# Altium schematic symbol library Vyrodov_.SchLib: 135 symbols
Pins are listed as number, name and electrical type; pins without a type are passive.

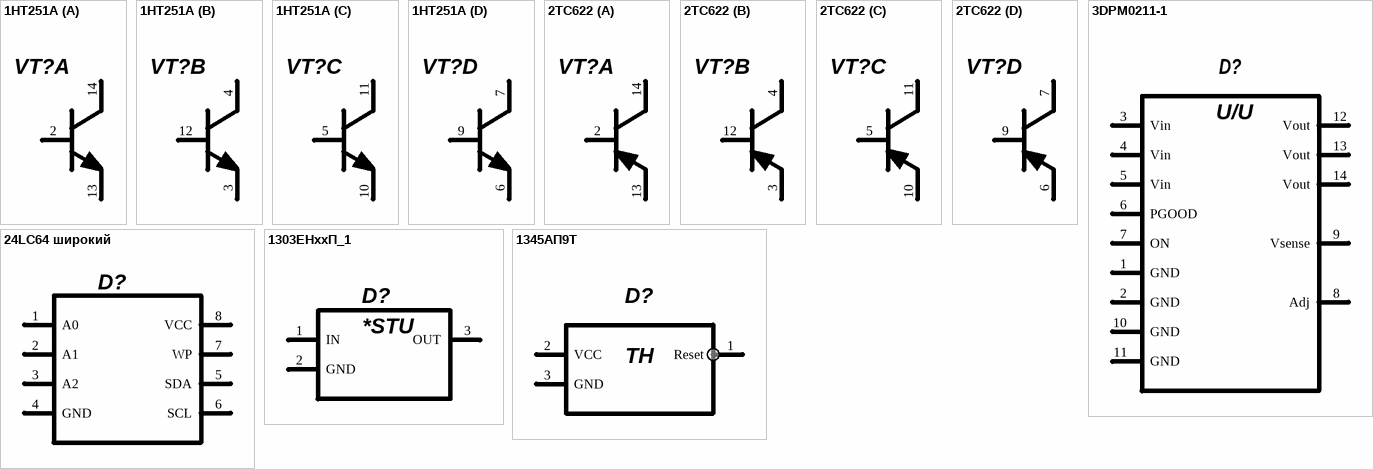
[diagram p0: symbols 1НТ251A to 1345АП9Т]

## 1НТ251A
designator VT?  (value not drawn)
Value: 1НТ251А
footprint 401.14-6 (Footprint not found)
part A pins: 2 B, 13 E, 14 C
part B pins: 3 E, 4 C, 12 B
part C pins: 5 B, 10 E, 11 C
part D pins: 6 У, 7 C, 9 B

## 2ТС622
designator VT?  (value not drawn)
Value: 2ТС622А1
footprint 401.14-6 (Footprint not found)
part A pins: 2 B, 13 E, 14 C
part B pins: 3 E, 4 C, 12 B
part C pins: 5 B, 10 E, 11 C
part D pins: 6 У, 7 C, 9 B

## 3DPM0211-1
designator D?  (value not drawn)
Value: 3DPM0211-1
pins: 1 GND, 2 GND, 3 Vin, 4 Vin, 5 Vin, 6 PGOOD, 7 ON, 8 Adj, 9 Vsense, 10 GND, 11 GND, 12 Vout, 13 Vout, 14 Vout
text: U/U

## 24LC64 широкий
designator D?, comment 24LC64-I/SN  (value not drawn)
footprint SOIC-8 (Footprint not found)
pins: 1 A0, 2 A1, 3 A2, 4 GND (power), 5 SDA, 6 SCL, 7 WP, 8 VCC (power)

## 1303ЕНххП_1
designator D?, comment 1303ЕН1.8П  (value not drawn)
Value: 1303ЕН1.8П
footprint KT-28A-2.05 (Footprint not found)
pins: 1 IN, 2 GND, 3 OUT
text: *STU

## 1345АП9Т
designator D?, comment 1345АП9Т АЯЕР.431310.843ТУ  (value not drawn)
Value: 1345АП9Т АЯЕР.431310.843ТУ
footprint 4601.3-1 (Footprint not found)
pins: 1 Reset, 2 VCC, 3 GND
text: TH

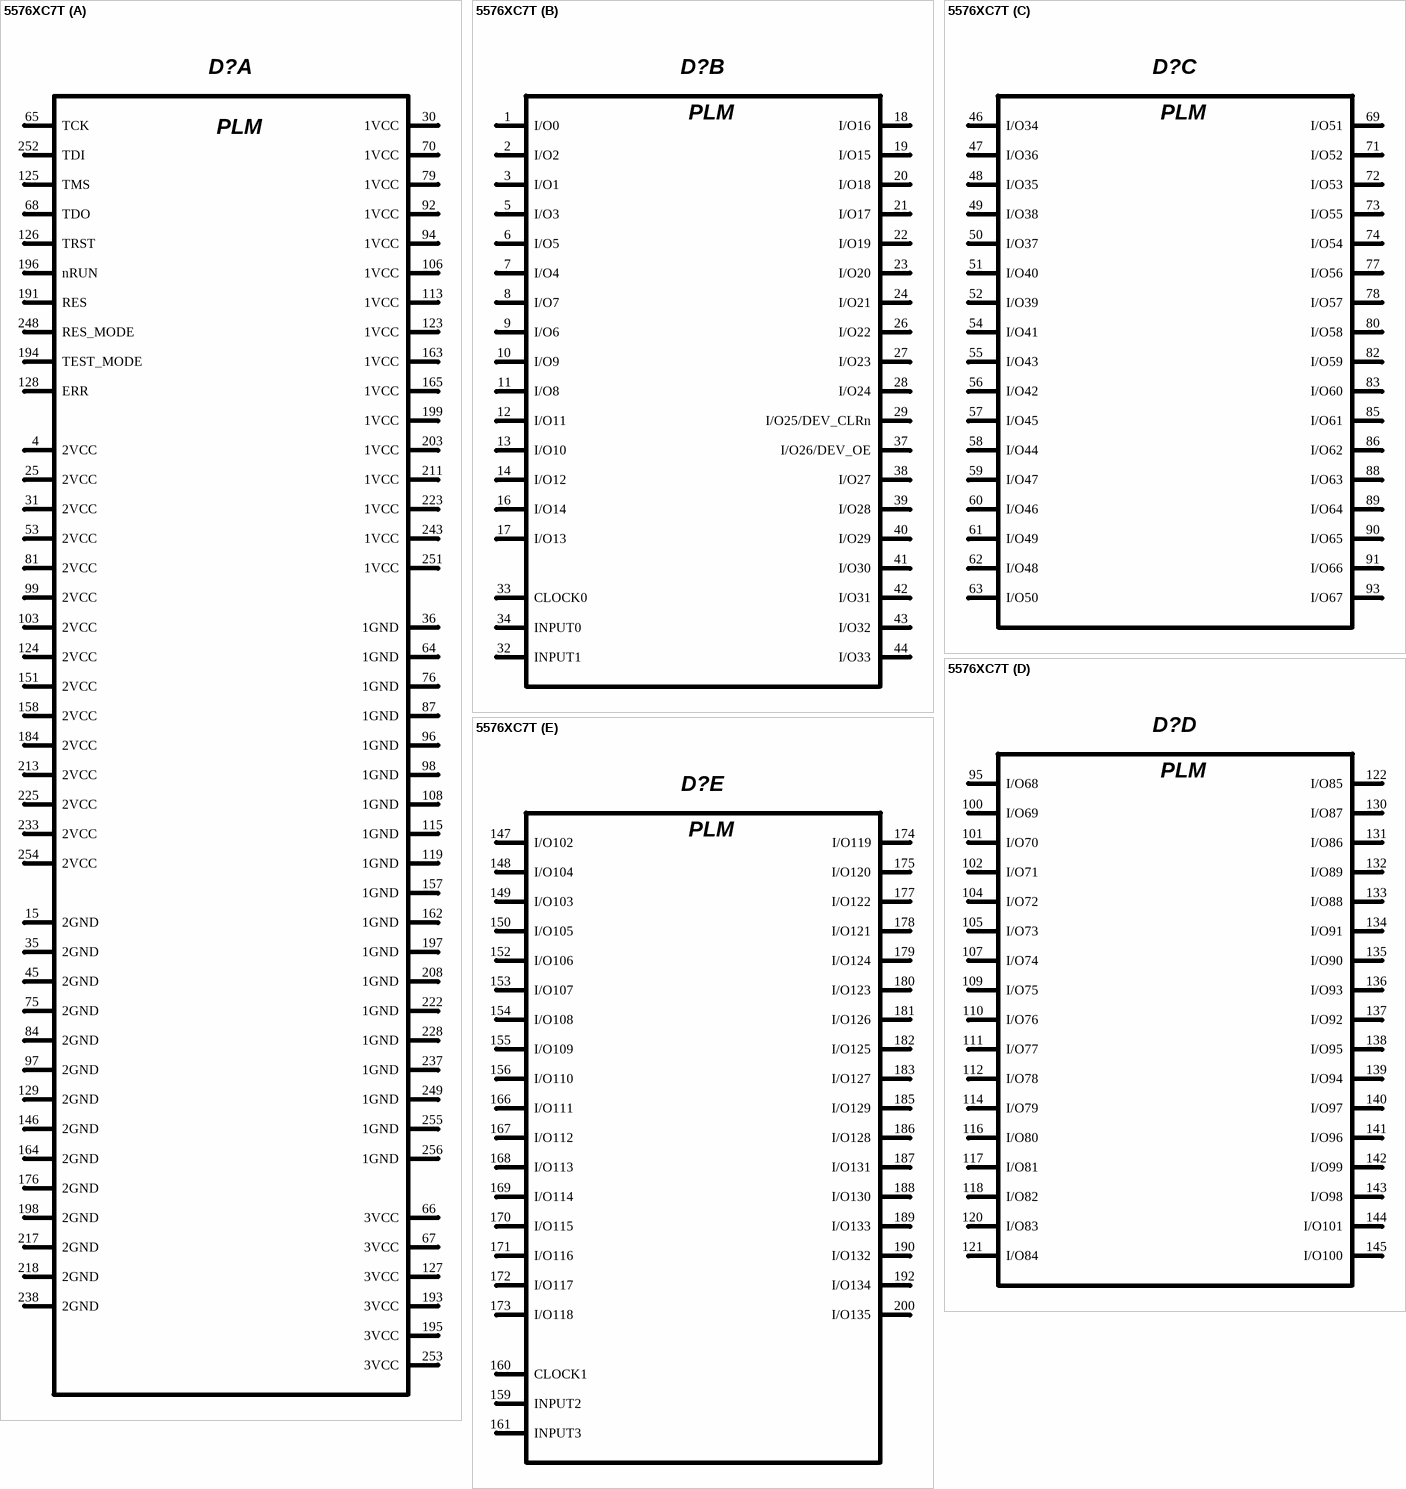
[diagram p1: symbol 5576ХС7Т]

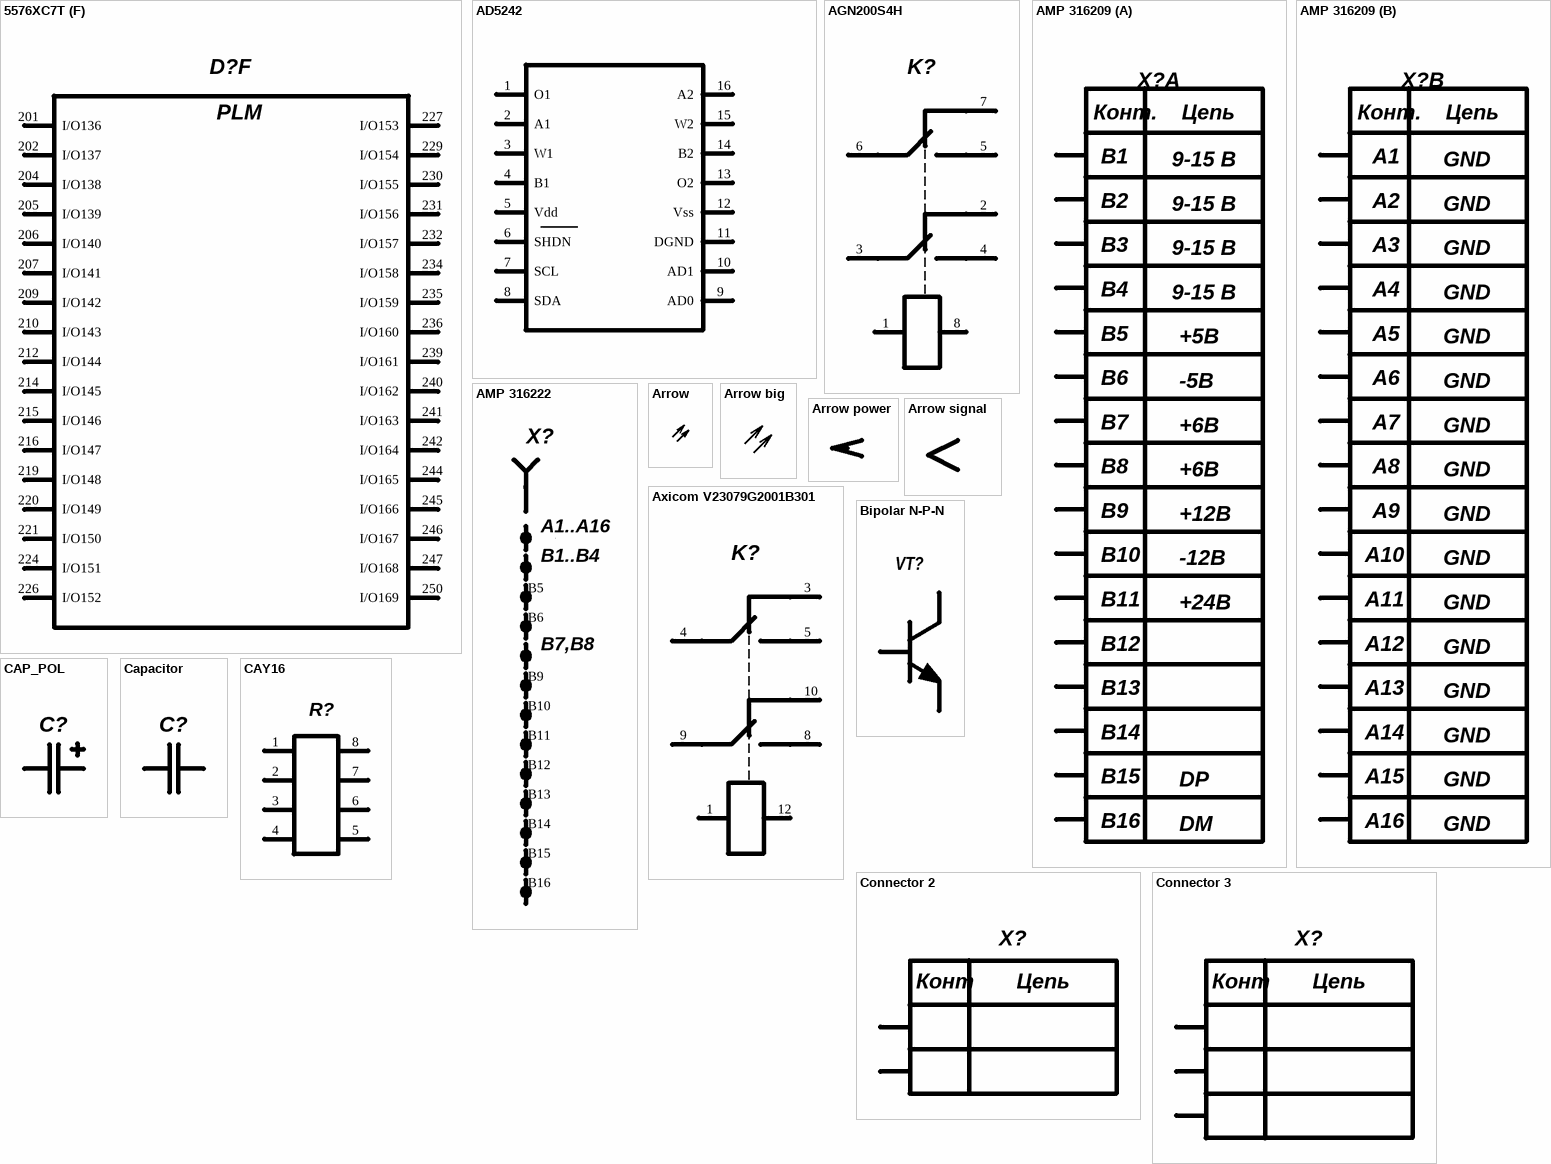
[diagram p2: symbols 5576ХС7Т to Connector 3]

## 5576ХС7Т
designator D?, comment 5576ХС7Т АЕНВ.431260.059ТУ  (value not drawn)
Value: 5576ХС7Т АЕНВ.431260.059ТУ
footprint 4244.256-3 (Footprint not found)
part A pins: 4 2VCC, 15 2GND, 25 2VCC, 30 1VCC, 31 2VCC, 35 2GND, 36 1GND, 45 2GND, 53 2VCC, 64 1GND, 65 TCK, 66 3VCC, 67 3VCC, 68 TDO, 70 1VCC, 75 2GND, 76 1GND, 79 1VCC, 81 2VCC, 84 2GND, 87 1GND, 92 1VCC, 94 1VCC, 96 1GND, 97 2GND, 98 1GND, 99 2VCC, 103 2VCC, 106 1VCC, 108 1GND, 113 1VCC, 115 1GND, 119 1GND, 123 1VCC, 124 2VCC, 125 TMS, 126 TRST, 127 3VCC, 128 ERR, 129 2GND, 146 2GND, 151 2VCC, 157 1GND, 158 2VCC, 162 1GND, 163 1VCC, 164 2GND, 165 1VCC, 176 2GND, 184 2VCC, 191 RES, 193 3VCC, 194 TEST_MODE, 195 3VCC, 196 nRUN, 197 1GND, 198 2GND, 199 1VCC, 203 1VCC, 208 1GND, 211 1VCC, 213 2VCC, 217 2GND, 218 2GND, 222 1GND, 223 1VCC, 225 2VCC, 228 1GND, 233 2VCC, 237 1GND, 238 2GND, 243 1VCC, 248 RES_MODE, 249 1GND, 251 1VCC, 252 TDI, 253 3VCC, 254 2VCC, 255 1GND, 256 1GND
part B pins: 1 I/O0, 2 I/O2, 3 I/O1, 5 I/O3, 6 I/O5, 7 I/O4, 8 I/O7, 9 I/O6, 10 I/O9, 11 I/O8, 12 I/O11, 13 I/O10, 14 I/O12, 16 I/O14, 17 I/O13, 18 I/O16, 19 I/O15, 20 I/O18, 21 I/O17, 22 I/O19, 23 I/O20, 24 I/O21, 26 I/O22, 27 I/O23, 28 I/O24, 29 I/O25/DEV_CLRn, 32 INPUT1, 33 CLOCK0, 34 INPUT0, 37 I/O26/DEV_OE, 38 I/O27, 39 I/O28, 40 I/O29, 41 I/O30, 42 I/O31, 43 I/O32, 44 I/O33
part C pins: 46 I/O34, 47 I/O36, 48 I/O35, 49 I/O38, 50 I/O37, 51 I/O40, 52 I/O39, 54 I/O41, 55 I/O43, 56 I/O42, 57 I/O45, 58 I/O44, 59 I/O47, 60 I/O46, 61 I/O49, 62 I/O48, 63 I/O50, 69 I/O51, 71 I/O52, 72 I/O53, 73 I/O55, 74 I/O54, 77 I/O56, 78 I/O57, 80 I/O58, 82 I/O59, 83 I/O60, 85 I/O61, 86 I/O62, 88 I/O63, 89 I/O64, 90 I/O65, 91 I/O66, 93 I/O67
part D pins: 95 I/O68, 100 I/O69, 101 I/O70, 102 I/O71, 104 I/O72, 105 I/O73, 107 I/O74, 109 I/O75, 110 I/O76, 111 I/O77, 112 I/O78, 114 I/O79, 116 I/O80, 117 I/O81, 118 I/O82, 120 I/O83, 121 I/O84, 122 I/O85, 130 I/O87, 131 I/O86, 132 I/O89, 133 I/O88, 134 I/O91, 135 I/O90, 136 I/O93, 137 I/O92, 138 I/O95, 139 I/O94, 140 I/O97, 141 I/O96, 142 I/O99, 143 I/O98, 144 I/O101, 145 I/O100
part E pins: 147 I/O102, 148 I/O104, 149 I/O103, 150 I/O105, 152 I/O106, 153 I/O107, 154 I/O108, 155 I/O109, 156 I/O110, 159 INPUT2, 160 CLOCK1, 161 INPUT3, 166 I/O111, 167 I/O112, 168 I/O113, 169 I/O114, 170 I/O115, 171 I/O116, 172 I/O117, 173 I/O118, 174 I/O119, 175 I/O120, 177 I/O122, 178 I/O121, 179 I/O124, 180 I/O123, 181 I/O126, 182 I/O125, 183 I/O127, 185 I/O129, 186 I/O128, 187 I/O131, 188 I/O130, 189 I/O133, 190 I/O132, 192 I/O134, 200 I/O135
part F pins: 201 I/O136, 202 I/O137, 204 I/O138, 205 I/O139, 206 I/O140, 207 I/O141, 209 I/O142, 210 I/O143, 212 I/O144, 214 I/O145, 215 I/O146, 216 I/O147, 219 I/O148, 220 I/O149, 221 I/O150, 224 I/O151, 226 I/O152, 227 I/O153, 229 I/O154, 230 I/O155, 231 I/O156, 232 I/O157, 234 I/O158, 235 I/O159, 236 I/O160, 239 I/O161, 240 I/O162, 241 I/O163, 242 I/O164, 244 I/O165, 245 I/O166, 246 I/O167, 247 I/O168, 250 I/O169
part A text: PLM
part B text: PLM
part C text: PLM
part D text: PLM
part E text: PLM
part F text: PLM

## AD5242
designator D?, comment DPOT  (value not drawn)
Type: *; Value: *
pins: 1 O1, 2 A1, 3 W1, 4 B1, 5 Vdd, 6 SHDN, 7 SCL, 8 SDA, 9 AD0, 10 AD1, 11 DGND, 12 Vss, 13 O2, 14 B2, 15 W2, 16 A2

## AGN200S4H
designator K?  (value not drawn)
Value: AGN200S4
pins: 1, 2, 3, 4, 5, 6, 7, 8

## AMP 316209
designator X?  (value not drawn)
Value: AMP 316209
part A pins: 17 B1, 18 B2, 19 B3, 20 B4, 21 B5, 22 B6, 23 B7, 24 B8, 25 B9, 26 B10, 27 B11, 28 B12, 29 B13, 30 B14, 31 B15, 32 B16
part B pins: 1 A1, 2 A2, 3 A3, 4 A4, 5 A5, 6 A6, 7 A7, 8 A8, 9 A9, 10 A10, 11 A11, 12 A12, 13 A13, 14 A14, 15 A15, 16 A16
part A text: Конт.; Цепь; 9-15 B; +5В; -5В; +6В; +12В; -12В; +24В; DP; DM
part B text: Конт.; Цепь; GND

## AMP 316222
designator X?  (value not drawn)
Value: AMP 316222
pins: A1, A2, A3, A4, A5, A6, A7, A8, A9, A10, A11, A12, A13, A14, A15, A16, B1, B2, B3, B4, B5, B6, B7, B8, B9, B10, B11, B12, B13, B14, B15, B16
text: A1..A16; B1..B4; B7,B8

## Arrow
designator *  (value not drawn)  (graphical)

## Arrow big
designator *  (value not drawn)  (graphical)

## Arrow power
designator *  (value not drawn)  (graphical)

## Arrow signal
designator *  (value not drawn)  (graphical)

## Axicom V23079G2001B301
designator K?  (value not drawn)
pins: 1, 3, 4, 5, 8, 9, 10, 12

## Bipolar N-P-N
designator VT?  (value not drawn)
Value: BC817-16LT
pins: 1 E, 2 B, 3 C

## CAP_POL
designator C?
footprint TAJA
footprint TAJE
footprint KVE83
footprint KVE-D10
footprint TAJB
footprint TAJC
footprint TAJD (Molded Capacitor, 2-Leads, Body 7,3x4,3mm)
pins: 1, 2

## Capacitor
designator C?  (value not drawn)
Value: *
pins: 1, 2

## CAY16
designator R?, comment CAY16-103J4LF  (value not drawn)
Value: CAY16-103J4LF
footprint cay-16
pins: 1, 2, 3, 4, 5, 6, 7, 8

## Connector 2
designator X?  (value not drawn)
Value: Вилка WF-02; Производитель: *
footprint WF-02 (Вилка WF-02)
pins: 1, 2
text: Конт; Цепь

## Connector 3
designator X?  (value not drawn)
pins: 1, 2, 3
text: Конт; Цепь

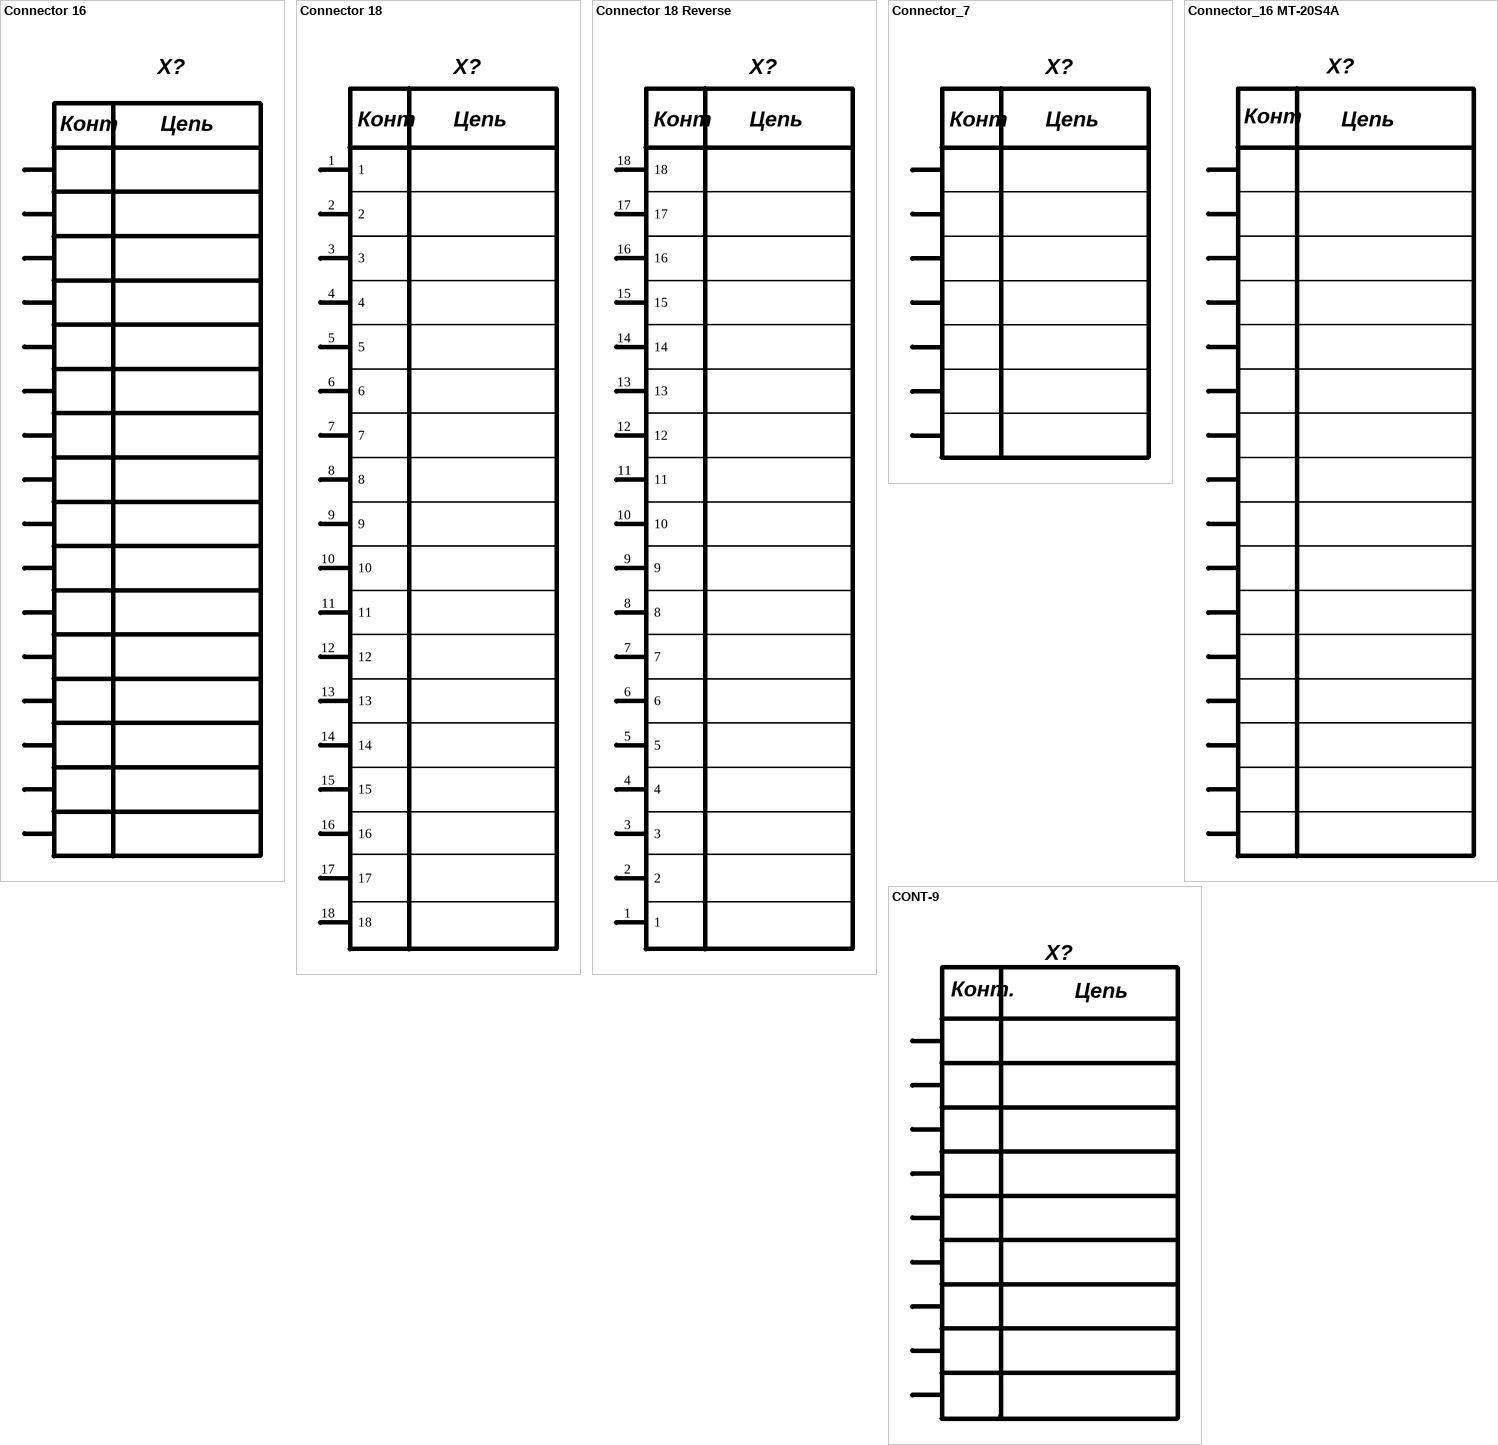
[diagram p3: symbols Connector 16 to CONT-9]

## Connector 16
designator X?, comment Molex 52207-1660 (16х1 мм)  (value not drawn)
Type: Molex 52207-1660 (16х1 мм)
footprint Model Name (Footprint not found)
pins: 1, 2, 3, 4, 5, 6, 7, 8, 9, 10, 11, 12, 13, 14, 15, 16
text: Конт; Цепь

## Connector 18
designator X?, comment Molex 52207-1660 (16х1 мм)  (value not drawn)
Type: Molex 52207-1660 (16х1 мм)
footprint Model Name (Footprint not found)
pins: 1, 2, 3, 4, 5, 6, 7, 8, 9, 10, 11, 12, 13, 14, 15, 16, 17, 18
text: Конт; Цепь

## Connector 18 Reverse
designator X?
Value: Molex 52207-1660 (16х1 мм)
footprint Model Name (Footprint not found)
pins: 1, 2, 3, 4, 5, 6, 7, 8, 9, 10, 11, 12, 13, 14, 15, 16, 17, 18
text: Конт; Цепь

## Connector_7
designator X?
Value: *
footprint Model Name (Footprint not found)
pins: 1, 2, 3, 4, 5, 6, 7
text: Конт; Цепь

## Connector_16 MT-20S4A
designator X?  (value not drawn)
Type: *; Value: *
pins: 1, 2, 3, 4, 5, 6, 7, 8, 9, 10, 11, 12, 13, 14, 15, 16
text: Конт; Цепь

## CONT-9
designator X?  (value not drawn)
Value: *
pins: 1, 2, 3, 4, 5, 6, 7, 8, 9
text: Конт.; Цепь

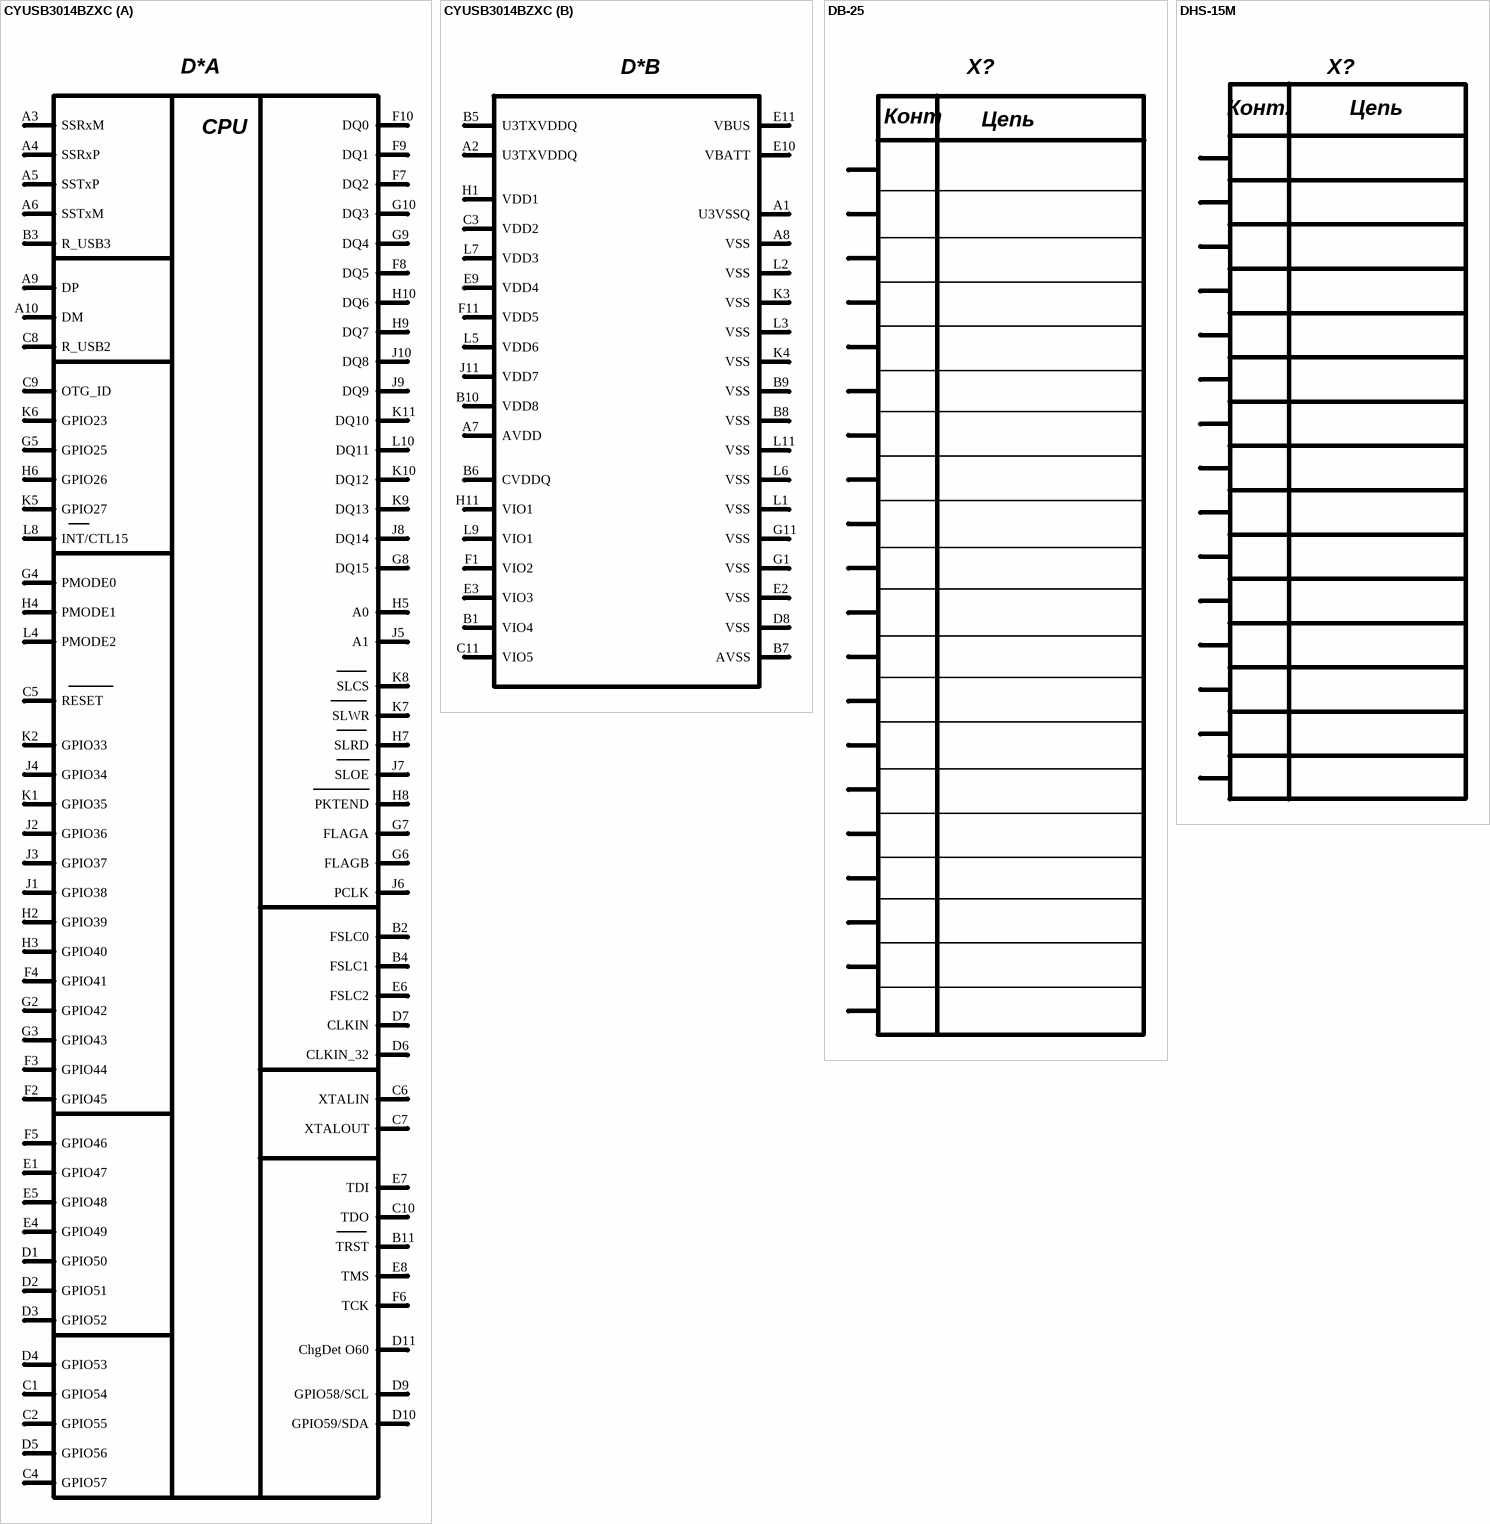
[diagram p4: symbols CYUSB3014BZXC to DHS-15M]

## CYUSB3014BZXC
designator D*  (value not drawn)
Value: CYUSB3014BZXC
footprint BGA121 (Footprint not found)
part A pins: A3 SSRxM, A4 SSRxP, A5 SSTxP, A6 SSTxM, A9 DP, A10 DM, B2 FSLC0, B3 R_USB3, B4 FSLC1, B11 TRST, C1 GPIO54, C2 GPIO55, C4 GPIO57, C5 RESET, C6 XTALIN, C7 XTALOUT, C8 R_USB2, C9 OTG_ID, C10 TDO, D1 GPIO50, D2 GPIO51, D3 GPIO52, D4 GPIO53, D5 GPIO56, D6 CLKIN_32, D7 CLKIN, D9 GPIO58/SCL, D10 GPIO59/SDA, D11 ChgDet O60, E1 GPIO47, E4 GPIO49, E5 GPIO48, E6 FSLC2, E7 TDI, E8 TMS, F2 GPIO45, F3 GPIO44, F4 GPIO41, F5 GPIO46, F6 TCK, F7 DQ2, F8 DQ5, F9 DQ1, F10 DQ0, G2 GPIO42, G3 GPIO43, G4 PMODE0, G5 GPIO25, G6 FLAGB, G7 FLAGA, G8 DQ15, G9 DQ4, G10 DQ3, H2 GPIO39, H3 GPIO40, H4 PMODE1, H5 A0, H6 GPIO26, H7 SLRD, H8 PKTEND, H9 DQ7, H10 DQ6, J1 GPIO38, J2 GPIO36, J3 GPIO37, J4 GPIO34, J5 A1, J6 PCLK, J7 SLOE, J8 DQ14, J9 DQ9, J10 DQ8, K1 GPIO35, K2 GPIO33, K5 GPIO27, K6 GPIO23, K7 SLWR, K8 SLCS, K9 DQ13, K10 DQ12, K11 DQ10, L4 PMODE2, L8 INT/CTL15, L10 DQ11
part B pins: A1 U3VSSQ, A2 U3TXVDDQ, A7 AVDD, A8 VSS, B1 VIO4, B5 U3TXVDDQ, B6 CVDDQ, B7 AVSS, B8 VSS, B9 VSS, B10 VDD8, C3 VDD2, C11 VIO5, D8 VSS, E2 VSS, E3 VIO3, E9 VDD4, E10 VBATT, E11 VBUS, F1 VIO2, F11 VDD5, G1 VSS, G11 VSS, H1 VDD1, H11 VIO1, J11 VDD7, K3 VSS, K4 VSS, L1 VSS, L2 VSS, L3 VSS, L5 VDD6, L6 VSS, L7 VDD3, L9 VIO1, L11 VSS
part A text: CPU

## DB-25
designator X?  (value not drawn)
Value: DB-25; Type: *
pins: 1, 2, 3, 4, 5, 6, 7, 8, 9, 10, 11, 12, 13, 14, 15, 16, 17, 19, 22, 24
text: Конт; Цепь

## DHS-15M
designator X?  Text1: Конт.  Text2: Цепь  (hidden comment: DHS-15M)
Value: DHS-15M
footprint PLD-2.0-16
footprint DHS-15M (Footprint not found)
pins: 1, 2, 3, 4, 5, 6, 7, 8, 9, 10, 11, 12, 13, 14, 15

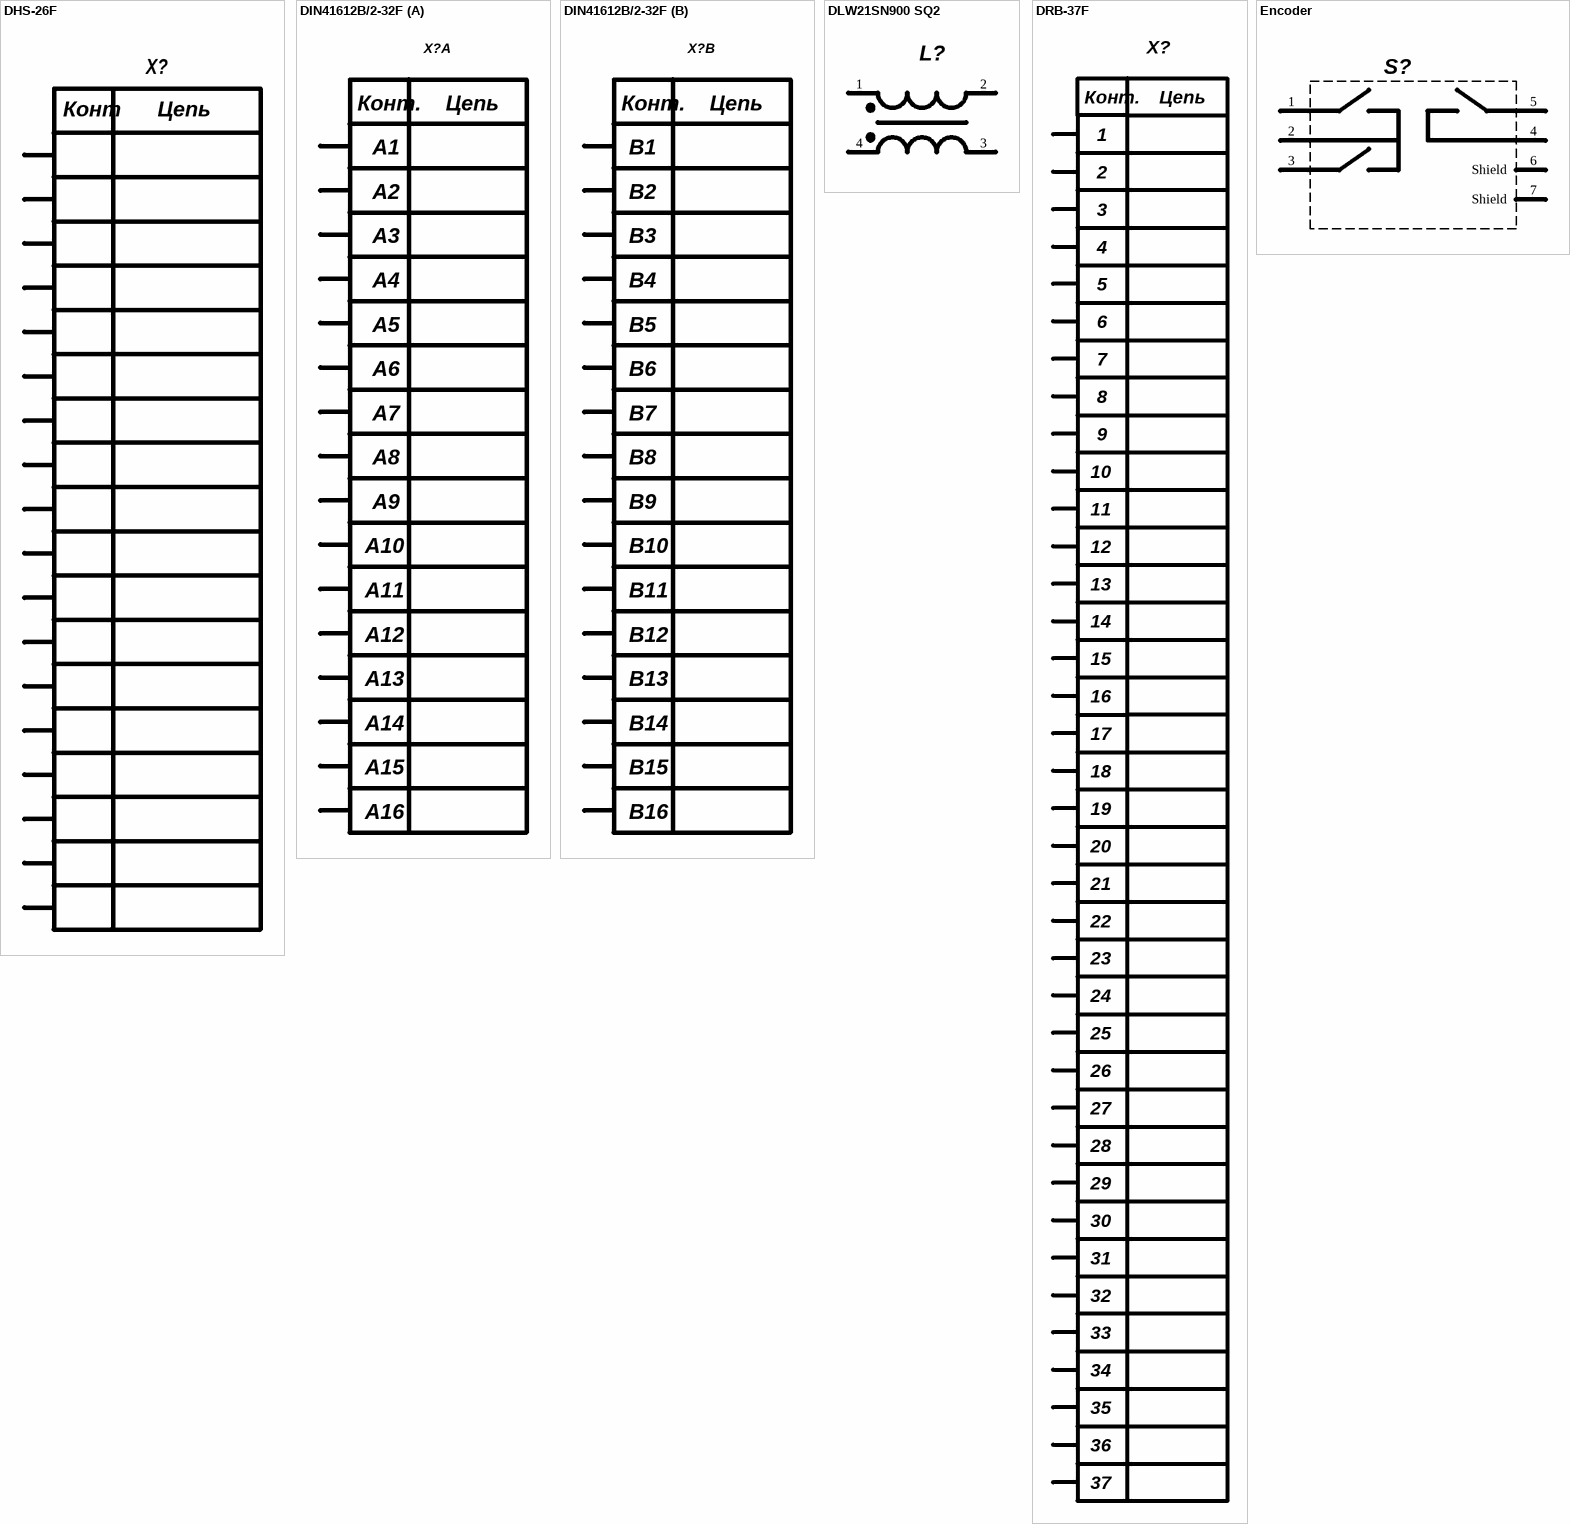
[diagram p5: symbols DHS-26F to Encoder]

## DHS-26F
designator X?  (value not drawn)
Value: DHS-26F
pins: 1, 2, 3, 4, 5, 6, 8, 9, 12, 13, 15, 16, 19, 20, 22, 23, 25, 26
text: Конт; Цепь

## DIN41612B/2-32F
designator X?  (value not drawn)
Value: DIN41612B/2-32F
footprint Model Name (Footprint not found)
part A pins: 1 A1, 2 A2, 3 A3, 4 A4, 5 A5, 6 A6, 7 A7, 8 A8, 9 A9, 10 A10, 11 A11, 12 A12, 13 A13, 14 A14, 15 A15, 16 A16
part B pins: 17 B1, 18 B2, 19 B3, 20 B4, 21 B5, 22 B6, 23 B7, 24 B8, 25 B9, 26 B10, 27 B11, 28 B12, 29 B13, 30 B14, 31 B15, 32 B16
part A text: Конт.; Цепь
part B text: Конт.; Цепь

## DLW21SN900 SQ2
designator L?, comment DLW21SN900SO2  (value not drawn)
pins: 1, 2, 3, 4

## DRB-37F
designator X?  (value not drawn)
Value: DRB-37F
pins: 1, 2, 3, 4, 5, 6, 7, 8, 9, 10, 11, 12, 13, 14, 15, 16, 17, 18, 19, 20, 21, 22, 23, 24, 25, 26, 27, 28, 29, 30, 31, 32, 33, 34, 35, 36, 37
text: Конт.; Цепь

## Encoder
designator S?  (value not drawn)
Type: *; Value: *
pins: 1 A, 2 COM, 3 B, 4 BTN2, 5 BTN1, 6 Shield, 7 Shield

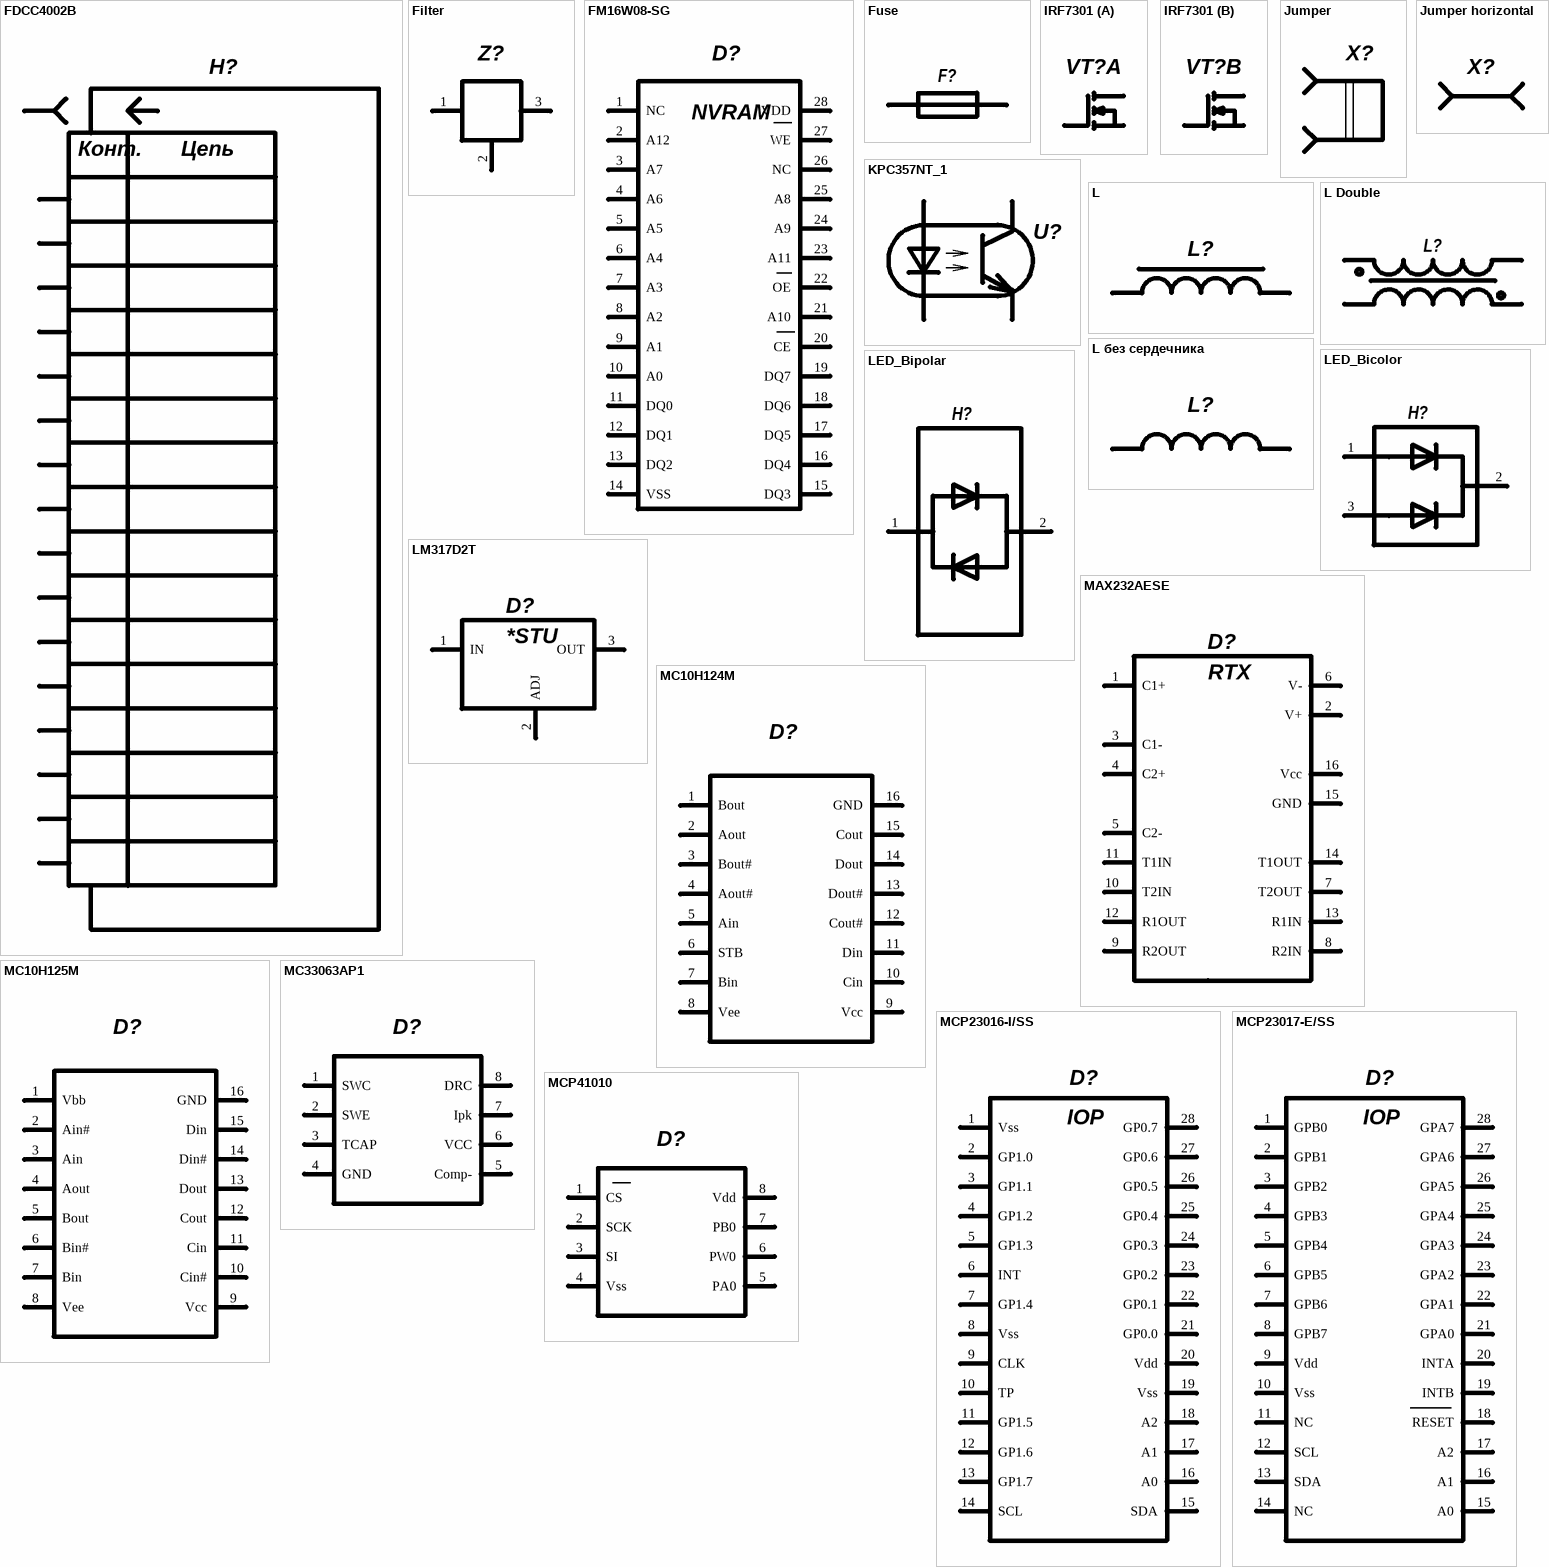
[diagram p6: symbols FDCC4002B to MCP41010]

## FDCC4002B
designator H?  (value not drawn)  (graphical)
Value: FDCC4002B; Производитель: Fordata electronic Co., LTD
pins: 1, 2, 3, 4, 5, 6, 7, 8, 9, 10, 11, 12, 13, 14, 15, 16
text: Конт.; Цепь

## Filter
designator Z?, comment NFM21  (value not drawn)
Value: NFM21
footprint NFM21C
footprint NFM18C
pins: 1, 2, 3

## FM16W08-SG
designator D?  (value not drawn)
Value: FM16W08-SG
footprint SOIC28 (Footprint not found)
pins: 1 NC, 2 A12, 3 A7, 4 A6, 5 A5, 6 A4, 7 A3, 8 A2, 9 A1, 10 A0, 11 DQ0, 12 DQ1, 13 DQ2, 14 VSS, 15 DQ3, 16 DQ4, 17 DQ5, 18 DQ6, 19 DQ7, 20 CE, 21 A10, 22 OE, 23 A11, 24 A9, 25 A8, 26 NC, 27 WE, 28 VDD
text: NVRAM

## Fuse
designator F?  (value not drawn)
Value: Держатель предохранителя 5х20
footprint FH (Footprint not found)
pins: 1, 2

## IRF7301
designator VT?  (value not drawn)
Value: IRF7301
footprint SO-8_N (Footprint not found)
3D model SO-8 (PCB3D Model)
part A pins: 1, 2, 7, 8
part B pins: 3, 4, 5, 6

## Jumper
designator X?  (value not drawn)

## Jumper horizontal
designator X?, comment Джампер MJ-O-4,5  (value not drawn)  (mechanical)
Value: Джампер MJ-O-4,5

## KPC357NT_1
designator U?, comment KPC357NT  (value not drawn)
footprint SOP254P1030-4M (SOP, 8-Leads, Body 9.5x6.4mm, Pitch 2.54mm, IPC Low Density)
pins: 1 A, 2 K, 3 E, 4 C

## L
designator L?, comment BLM18SG121TN1  (value not drawn)
Value: BLM18SG121TN1
footprint SDR0805
footprint CM45
footprint 1008CS
footprint SDR0603
pins: 1, 2

## L Double
designator L?  (value not drawn)
Value: *
footprint L Double (Footprint not found)
pins: 1, 2, 3, 4

## L без сердечника
designator L?, comment BLM18SG121TN1  (value not drawn)
Value: BLM18SG121TN1
footprint SDR0805
footprint CM45
footprint 1008CS
footprint SDR0603
footprint 0805
pins: 1, 2

## LED_Bicolor
designator H?  (value not drawn)
pins: 1, 2, 3

## LED_Bipolar
designator H?  (value not drawn)
pins: 1, 2

## LM317D2T
designator D?  (value not drawn)
Value: LM317D2T
footprint D2PAK (Footprint not found)
pins: 1 IN, 2 ADJ, 3 OUT
text: *STU

## MAX232AESE
designator D?  (value not drawn)
Value: MAX232AESE
footprint SO-16 (Footprint not found)
pins: 1 C1+, 2 V+, 3 C1-, 4 C2+, 5 C2-, 6 V-, 7 T2OUT, 8 R2IN, 9 R2OUT, 10 T2IN, 11 T1IN, 12 R1OUT, 13 R1IN, 14 T1OUT, 15 GND, 16 Vcc
text: RTX

## MC10H124M
designator D?  (value not drawn)
Value: MC10H124M
pins: 1 Bout, 2 Aout, 3 Bout#, 4 Aout#, 5 Ain, 6 STB, 7 Bin, 8 Vee, 9 Vcc, 10 Cin, 11 Din, 12 Cout#, 13 Dout#, 14 Dout, 15 Cout, 16 GND

## MC10H125M
designator D?  (value not drawn)
Value: MC10H125M
pins: 1 Vbb, 2 Ain#, 3 Ain, 4 Aout, 5 Bout, 6 Bin#, 7 Bin, 8 Vee, 9 Vcc, 10 Cin#, 11 Cin, 12 Cout, 13 Dout, 14 Din#, 15 Din, 16 GND

## MC33063AP1
designator D?  (value not drawn)
Value: MC33063AP1
pins: 1 SWC, 2 SWE, 3 TCAP, 4 GND, 5 Comp-, 6 VCC, 7 Ipk, 8 DRC

## MCP23016-I/SS
designator D?  (value not drawn)
Value: MCP23016-I/SS
footprint SSOP-28 (SSOP, Plastic; 28 Leads; Body Width 5.2 mm; Pitch 0.65 mm)
pins: 1 Vss, 2 GP1.0, 3 GP1.1, 4 GP1.2, 5 GP1.3, 6 INT, 7 GP1.4, 8 Vss, 9 CLK, 10 TP, 11 GP1.5, 12 GP1.6, 13 GP1.7, 14 SCL, 15 SDA, 16 A0, 17 A1, 18 A2, 19 Vss, 20 Vdd, 21 GP0.0, 22 GP0.1, 23 GP0.2, 24 GP0.3, 25 GP0.4, 26 GP0.5, 27 GP0.6, 28 GP0.7
text: IOP

## MCP23017-E/SS
designator D?  (value not drawn)
Value: MCP23017-E/SS
footprint SSOP-28 (SSOP, Plastic; 28 Leads; Body Width 5.2 mm; Pitch 0.65 mm)
pins: 1 GPB0, 2 GPB1, 3 GPB2, 4 GPB3, 5 GPB4, 6 GPB5, 7 GPB6, 8 GPB7, 9 Vdd, 10 Vss, 11 NC, 12 SCL, 13 SDA, 14 NC, 15 A0, 16 A1, 17 A2, 18 RESET, 19 INTB, 20 INTA, 21 GPA0, 22 GPA1, 23 GPA2, 24 GPA3, 25 GPA4, 26 GPA5, 27 GPA6, 28 GPA7
text: IOP

## MCP41010
designator D?, comment MCP41010-I/SN (10 кОм)  (value not drawn)
Value: MCP41010-I/SN (10 кОм)
footprint SOIC-8
pins: 1 CS, 2 SCK, 3 SI, 4 Vss, 5 PA0, 6 PW0, 7 PB0, 8 Vdd

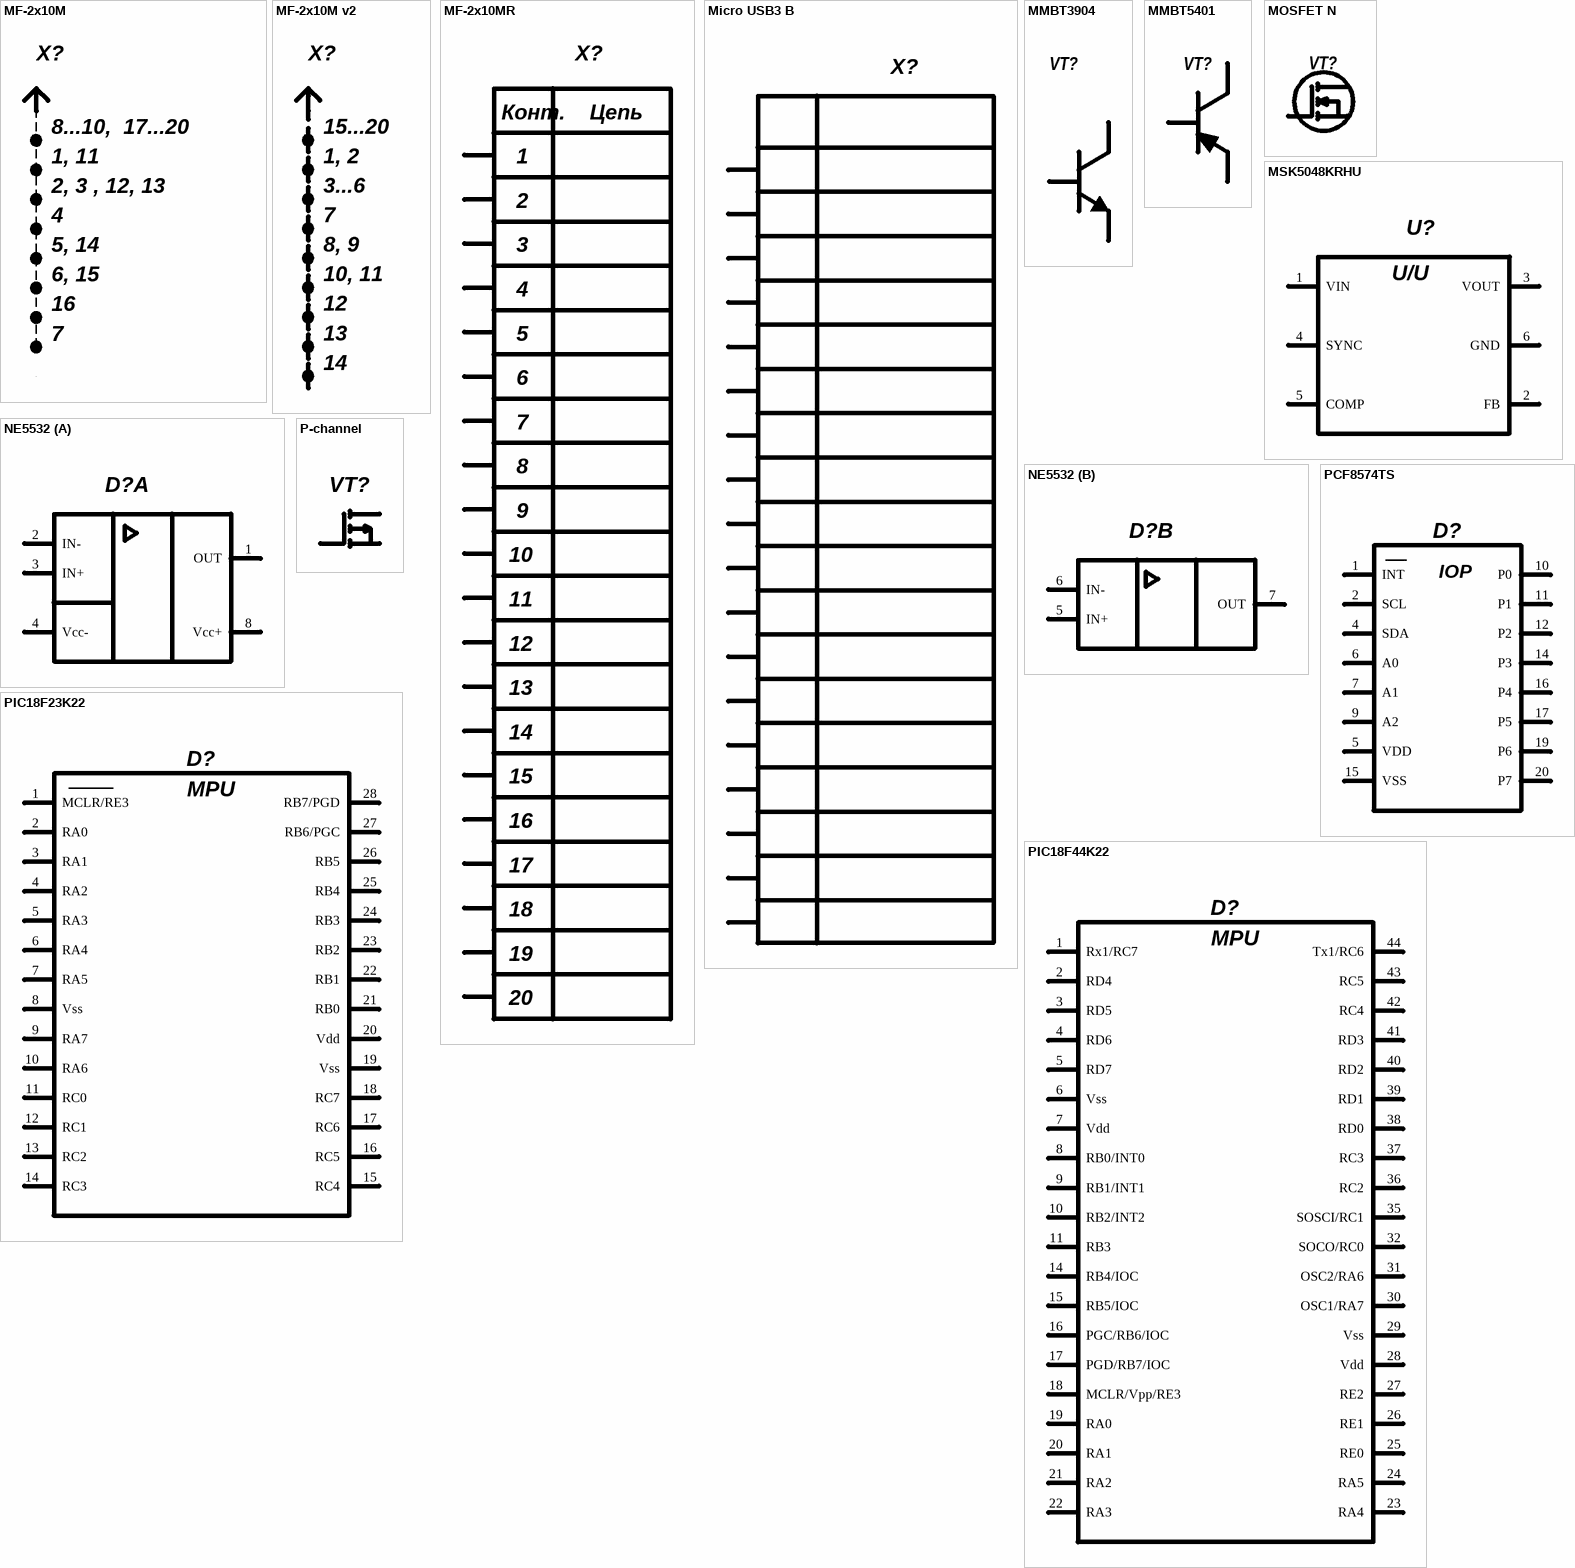
[diagram p7: symbols MF-2x10M to PIC18F44K22]

## MF-2x10M
designator X?  (value not drawn)
Value: MF-2x10M
footprint 1-794311-1 (4.2mm & 4.4mm Centerline, 600 V, 9 A max. Dual Action)
pins: 1, 2, 3, 4, 5, 6, 7, 8, 9, 10, 11, 12, 13, 14, 15, 16, 17, 18, 19, 20
text: 8...10,  17...20; 1, 11; 2, 3 , 12, 13; 5, 14; 6, 15

## MF-2x10M v2
designator X?, comment MF-2x10M  (value not drawn)
Value: MF-2x10M
footprint 1-794311-1 (4.2mm & 4.4mm Centerline, 600 V, 9 A max. Dual Action)
pins: 1, 2, 3, 4, 5, 6, 7, 8, 9, 10, 11, 12, 13, 14, 15, 16, 17, 18, 19, 20
text: 15...20; 1, 2; 3...6; 8, 9; 10, 11

## MF-2x10MR
designator X?  (value not drawn)
Value: MF-2x10MR
footprint 1-794311-1 (4.2mm & 4.4mm Centerline, 600 V, 9 A max. Dual Action)
pins: 1, 2, 3, 4, 5, 6, 7, 8, 9, 10, 11, 12, 13, 14, 15, 16, 17, 18, 19, 20
text: Конт.; Цепь

## Micro USB3 B
designator X?  (value not drawn)
Value: Розетка CMS1811-010010 (Micro USB3 B)
pins: 1, 2, 3, 4, 5, 6, 7, 8, 9, 10, 11, 12, 13, 14, 15, 16, 17, 18

## MMBT3904
designator VT?  (value not drawn)
pins: 1 E, 2 B, 3 C

## MMBT5401
designator VT?  (value not drawn)
pins: 1 E, 2 B, 3 C

## MOSFET N
designator VT?  (value not drawn)
Value: IRF1010N
footprint TO-220 (Footprint not found)
pins: 1 G, 2 D, 3 S

## MSK5048KRHU
designator U?, comment MSK5048KRHGW  (value not drawn)
Value: MSK5048KRHGW
pins: 1 VIN, 2 FB, 3 VOUT, 4 SYNC, 5 COMP, 6 GND
text: U/U

## NE5532
designator D?  (value not drawn)
Value: NE5532
footprint SOIC-8
part A pins: 1 OUT, 2 IN-, 3 IN+, 4 Vcc-, 8 Vcc+
part B pins: 5 IN+, 6 IN-, 7 OUT

## P-channel
designator VT?  (value not drawn)
Value: *
pins: 1 G, 2 D, 3 S, 7

## PCF8574TS
designator D?  (value not drawn)
PCF8574; Value: PCF8574TS
footprint SSOP20 (Footprint not found)
pins: 1 INT, 2 SCL, 4 SDA (power), 5 VDD, 6 A0, 7 A1, 9 A2, 10 P0, 11 P1, 12 P2, 14 P3, 15 VSS, 16 P4, 17 P5, 19 P6, 20 P7
text: IOP

## PIC18F23K22
designator D?, comment PIC18F23K22-I/SO  (value not drawn)
Производитель: Microchip; Value: PIC18F23K22-I/SO
footprint SO-28 (Footprint not found)
pins: 1 MCLR/RE3, 2 RA0, 3 RA1, 4 RA2, 5 RA3, 6 RA4, 7 RA5, 8 Vss, 9 RA7, 10 RA6, 11 RC0, 12 RC1, 13 RC2, 14 RC3, 15 RC4, 16 RC5, 17 RC6, 18 RC7, 19 Vss, 20 Vdd, 21 RB0, 22 RB1, 23 RB2, 24 RB3, 25 RB4, 26 RB5, 27 RB6/PGC, 28 RB7/PGD
text: MPU

## PIC18F44K22
designator D?, comment PIC18F44K22-I/SO  (value not drawn)
Производитель: Microchip; Value: PIC18F44K22-I/SO
footprint TQFP-44
pins: 1 Rx1/RC7, 2 RD4, 3 RD5, 4 RD6, 5 RD7, 6 Vss, 7 Vdd, 8 RB0/INT0, 9 RB1/INT1, 10 RB2/INT2, 11 RB3, 14 RB4/IOC, 15 RB5/IOC, 16 PGC/RB6/IOC, 17 PGD/RB7/IOC, 18 MCLR/Vpp/RE3, 19 RA0, 20 RA1, 21 RA2, 22 RA3, 23 RA4, 24 RA5, 25 RE0, 26 RE1, 27 RE2, 28 Vdd, 29 Vss, 30 OSC1/RA7, 31 OSC2/RA6, 32 SOCO/RC0, 35 SOSCI/RC1, 36 RC2, 37 RC3, 38 RD0, 39 RD1, 40 RD2, 41 RD3, 42 RC4, 43 RC5, 44 Tx1/RC6
text: MPU

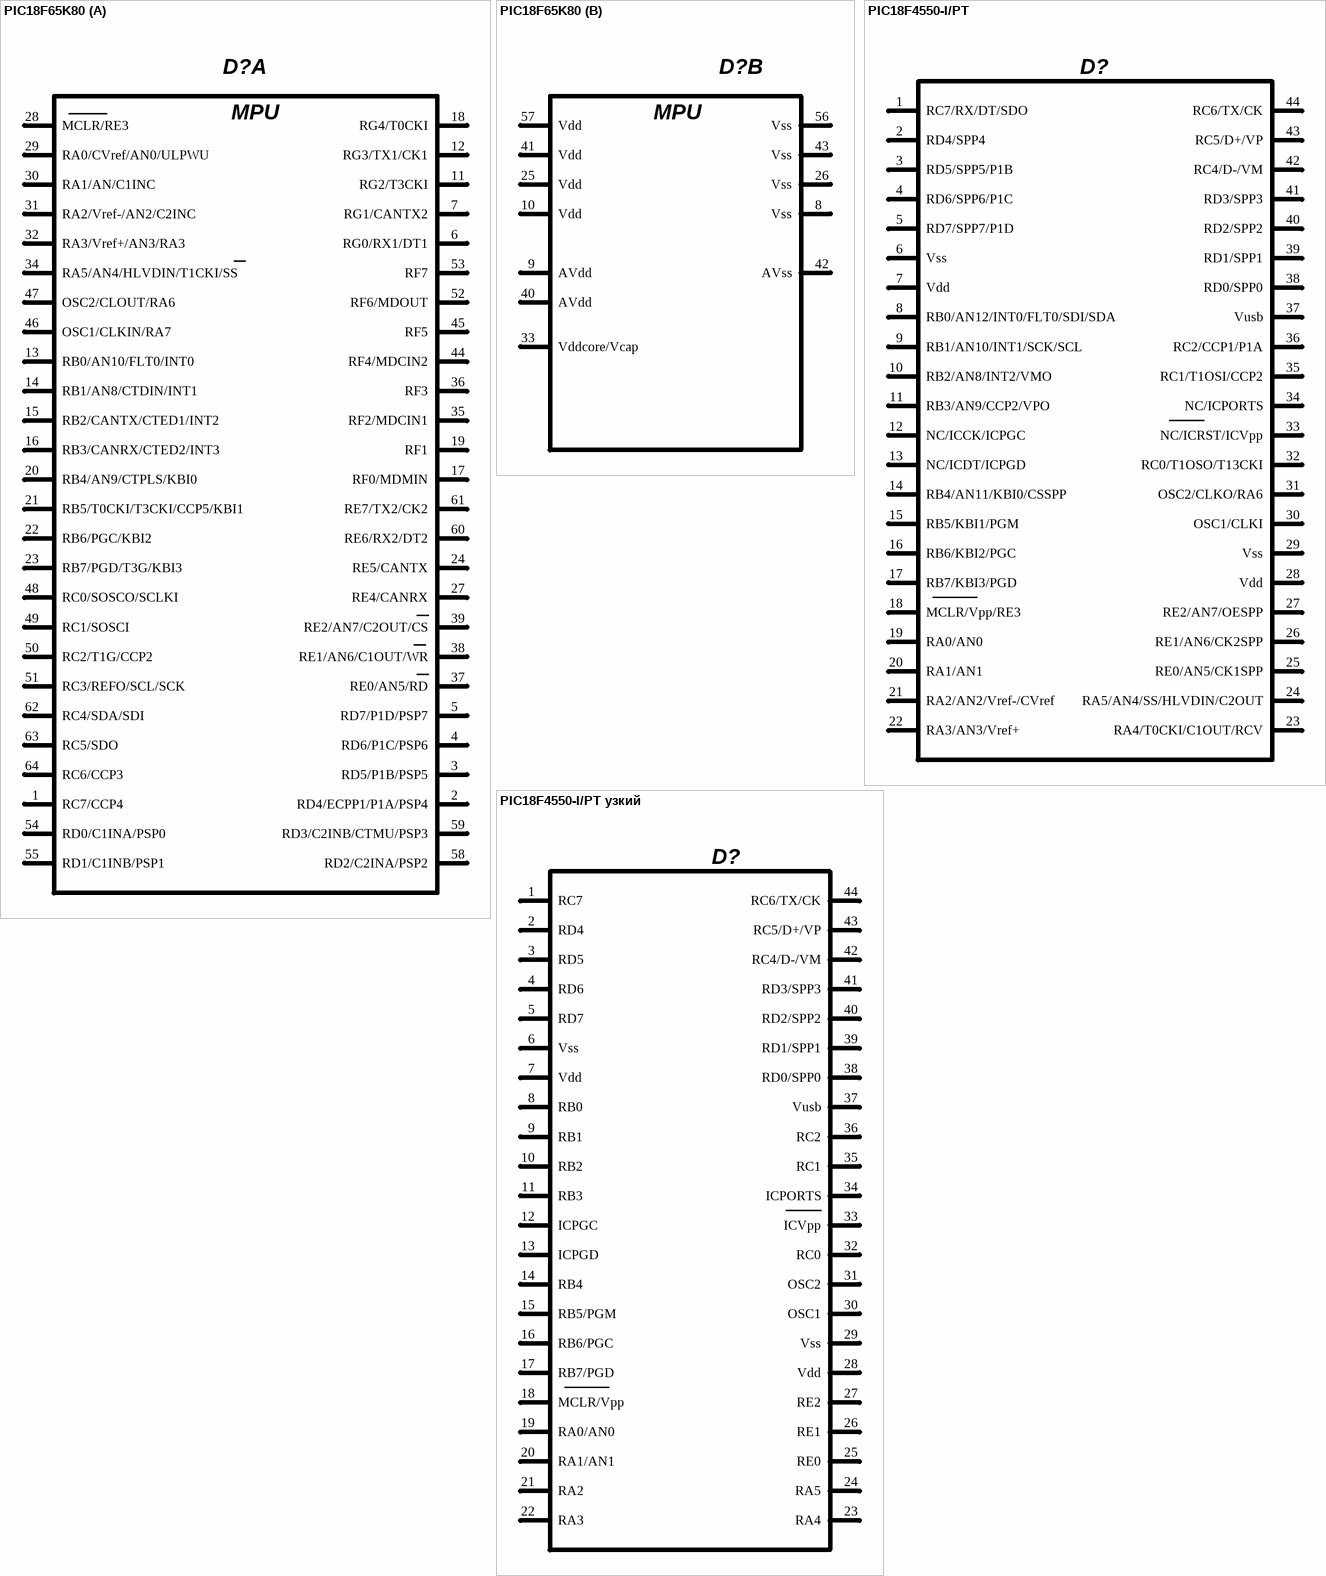
[diagram p8: symbols PIC18F65K80 to PIC18F4550-I/PT узкий]

## PIC18F65K80
designator D?, comment PIC18F65K80-I/PT  (value not drawn)
Производитель: Microchip; Value: PIC18F65K80-I/PT
footprint TQFP-64 (Footprint not found)
part A pins: 1 RC7/CCP4, 2 RD4/ECPP1/P1A/PSP4, 3 RD5/P1B/PSP5, 4 RD6/P1C/PSP6, 5 RD7/P1D/PSP7, 6 RG0/RX1/DT1, 7 RG1/CANTX2, 11 RG2/T3CKI, 12 RG3/TX1/CK1, 13 RB0/AN10/FLT0/INT0, 14 RB1/AN8/CTDIN/INT1, 15 RB2/CANTX/CTED1/INT2, 16 RB3/CANRX/CTED2/INT3, 17 RF0/MDMIN, 18 RG4/T0CKI, 19 RF1, 20 RB4/AN9/CTPLS/KBI0, 21 RB5/T0CKI/T3CKI/CCP5/KBI1, 22 RB6/PGC/KBI2, 23 RB7/PGD/T3G/KBI3, 24 RE5/CANTX, 27 RE4/CANRX, 28 MCLR/RE3, 29 RA0/CVref/AN0/ULPWU, 30 RA1/AN/C1INC, 31 RA2/Vref-/AN2/C2INC, 32 RA3/Vref+/AN3/RA3, 34 RA5/AN4/HLVDIN/T1CKI/SS, 35 RF2/MDCIN1, 36 RF3, 37 RE0/AN5/RD, 38 RE1/AN6/C1OUT/WR, 39 RE2/AN7/C2OUT/CS, 44 RF4/MDCIN2, 45 RF5, 46 OSC1/CLKIN/RA7, 47 OSC2/CLOUT/RA6, 48 RC0/SOSCO/SCLKI, 49 RC1/SOSCI, 50 RC2/T1G/CCP2, 51 RC3/REFO/SCL/SCK, 52 RF6/MDOUT, 53 RF7, 54 RD0/C1INA/PSP0, 55 RD1/C1INB/PSP1, 58 RD2/C2INA/PSP2, 59 RD3/C2INB/CTMU/PSP3, 60 RE6/RX2/DT2, 61 RE7/TX2/CK2, 62 RC4/SDA/SDI, 63 RC5/SDO, 64 RC6/CCP3
part B pins: 8 Vss, 9 AVdd, 10 Vdd, 25 Vdd, 26 Vss, 33 Vddcore/Vcap, 40 AVdd, 41 Vdd, 42 AVss, 43 Vss, 56 Vss, 57 Vdd
part A text: MPU
part B text: MPU

## PIC18F4550-I/PT
designator D?
Value: PIC18F4550-I/PT
footprint TQFP-44
pins: 1 RC7/RX/DT/SDO, 2 RD4/SPP4, 3 RD5/SPP5/P1B, 4 RD6/SPP6/P1C, 5 RD7/SPP7/P1D, 6 Vss (power), 7 Vdd (power), 8 RB0/AN12/INT0/FLT0/SDI/SDA, 9 RB1/AN10/INT1/SCK/SCL, 10 RB2/AN8/INT2/VMO, 11 RB3/AN9/CCP2/VPO, 12 NC/ICCK/ICPGC, 13 NC/ICDT/ICPGD, 14 RB4/AN11/KBI0/CSSPP, 15 RB5/KBI1/PGM, 16 RB6/KBI2/PGC, 17 RB7/KBI3/PGD, 18 MCLR/Vpp/RE3, 19 RA0/AN0, 20 RA1/AN1, 21 RA2/AN2/Vref-/CVref, 22 RA3/AN3/Vref+, 23 RA4/T0CKI/C1OUT/RCV, 24 RA5/AN4/SS/HLVDIN/C2OUT, 25 RE0/AN5/CK1SPP, 26 RE1/AN6/CK2SPP, 27 RE2/AN7/OESPP, 28 Vdd (power), 29 Vss (power), 30 OSC1/CLKI, 31 OSC2/CLKO/RA6, 32 RC0/T1OSO/T13CKI, 33 NC/ICRST/ICVpp, 34 NC/ICPORTS, 35 RC1/T1OSI/CCP2, 36 RС2/CCP1/P1A, 37 Vusb, 38 RD0/SPP0, 39 RD1/SPP1, 40 RD2/SPP2, 41 RD3/SPP3, 42 RC4/D-/VM, 43 RC5/D+/VP, 44 RC6/TX/CK

## PIC18F4550-I/PT узкий
designator D?
Value: PIC18F4550-I/PT
footprint TQFP-44
pins: 1 RC7, 2 RD4, 3 RD5, 4 RD6, 5 RD7, 6 Vss (power), 7 Vdd (power), 8 RB0, 9 RB1, 10 RB2, 11 RB3, 12 ICPGC, 13 ICPGD, 14 RB4, 15 RB5/PGM, 16 RB6/PGC, 17 RB7/PGD, 18 MCLR/Vpp, 19 RA0/AN0, 20 RA1/AN1, 21 RA2, 22 RA3, 23 RA4, 24 RA5, 25 RE0, 26 RE1, 27 RE2, 28 Vdd (power), 29 Vss (power), 30 OSC1, 31 OSC2, 32 RC0, 33 ICVpp, 34 ICPORTS, 35 RC1, 36 RС2, 37 Vusb, 38 RD0/SPP0, 39 RD1/SPP1, 40 RD2/SPP2, 41 RD3/SPP3, 42 RC4/D-/VM, 43 RC5/D+/VP, 44 RC6/TX/CK

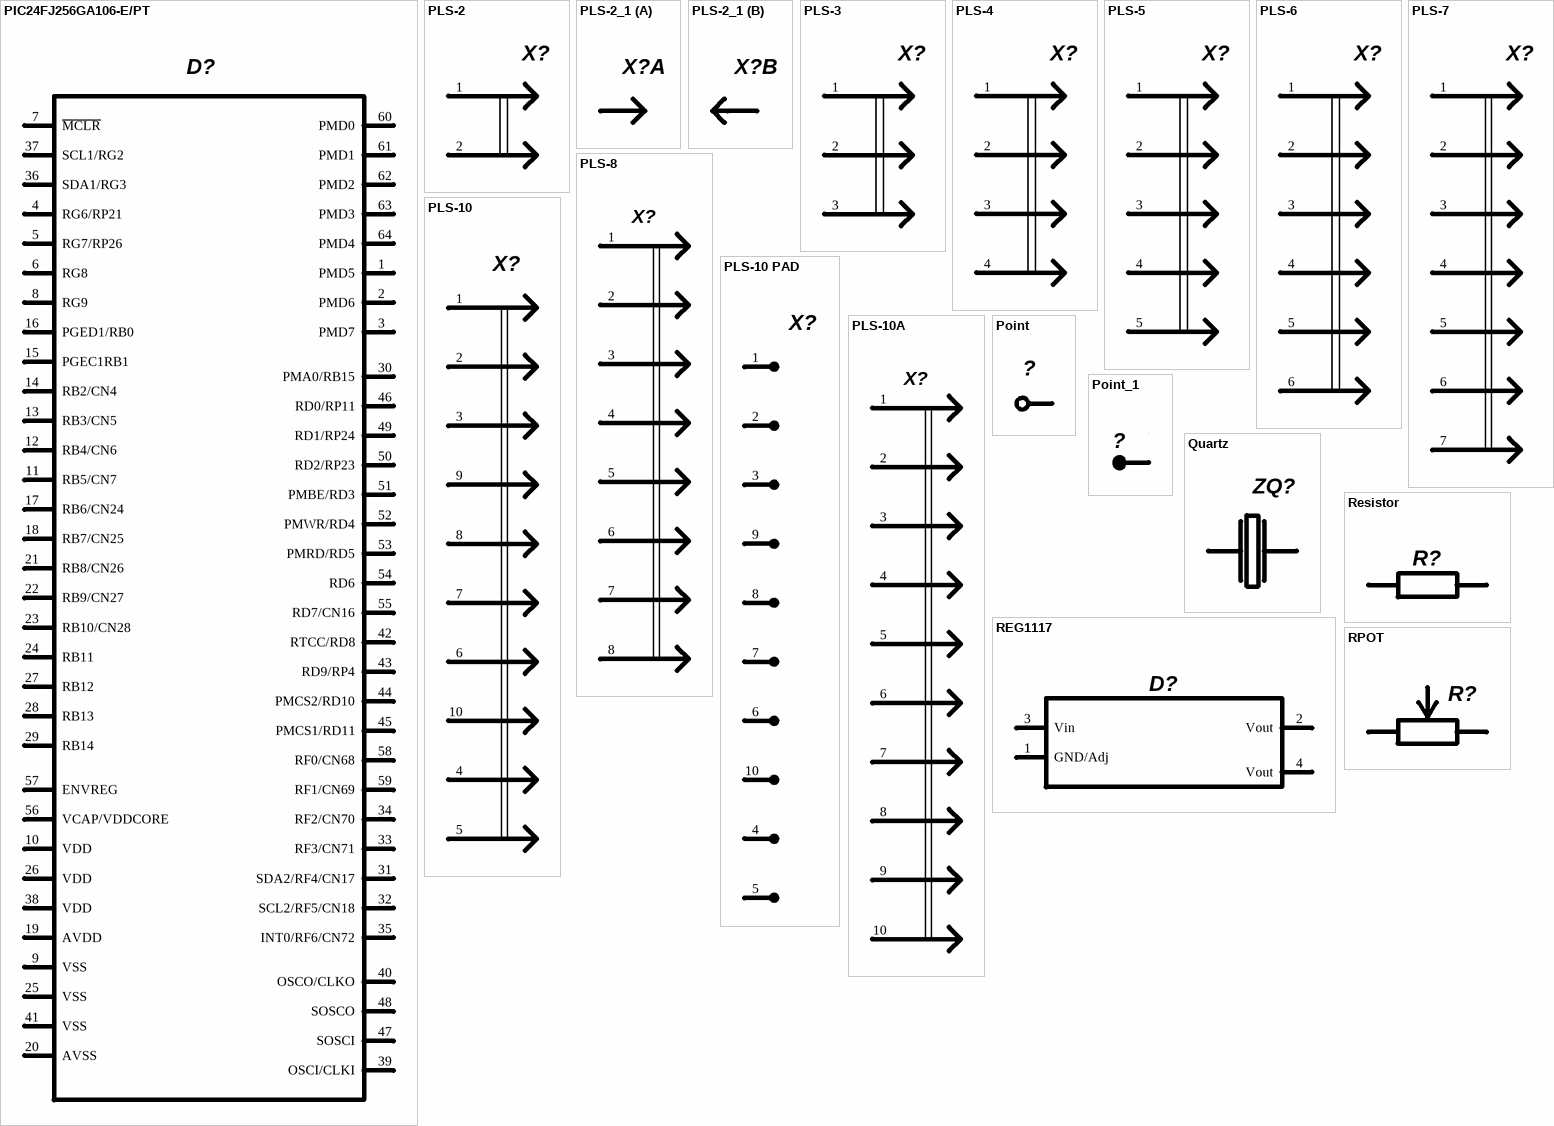
[diagram p9: symbols PIC24FJ256GA106-E/PT to RPOT]

## PIC24FJ256GA106-E/PT
designator D?  (value not drawn)
General Purpose 16-Bit Flash Microcontroller, 256KB Flash, 16KB SRAM, 64-Pin TQFP, Extended Temperature; Value: PIC24FJ256GA106-E/PT-ND
footprint TQFP-PT64_N (Thin QFP, 64-Leads, Body 10x10mm, Pitch 0.5mm, IPC Medium Density)
footprint TQFP-PT64_L (Thin QFP, 64-Leads, Body 10x10mm, Pitch 0.5mm, IPC High Density)
footprint TQFP-PT64_M (Thin QFP, 64-Leads, Body 10x10mm, Pitch 0.5mm, IPC Low Density)
pins: 1 PMD5 (hiz), 2 PMD6 (hiz), 3 PMD7 (hiz), 4 RG6/RP21 (hiz), 5 RG7/RP26 (hiz), 6 RG8 (hiz), 7 ~{MCLR} (hiz), 8 RG9 (hiz), 9 VSS (hiz), 10 VDD (power), 11 RB5/CN7 (hiz), 12 RB4/CN6 (hiz), 13 RB3/CN5 (hiz), 14 RB2/CN4 (hiz), 15 PGEC1RB1 (hiz), 16 PGED1/RB0 (hiz), 17 RB6/CN24 (hiz), 18 RB7/CN25 (hiz), 19 AVDD (hiz), 20 AVSS (hiz), 21 RB8/CN26 (hiz), 22 RB9/CN27 (hiz), 23 RB10/CN28 (hiz), 24 RB11 (hiz), 25 VSS (hiz), 26 VDD (hiz), 27 RB12 (hiz), 28 RB13 (hiz), 29 RB14 (hiz), 30 PMA0/RB15 (hiz), 31 SDA2/RF4/CN17 (hiz), 32 SCL2/RF5/CN18 (hiz), 33 RF3/CN71 (hiz), 34 RF2/CN70 (hiz), 35 INT0/RF6/CN72 (hiz), 36 SDA1/RG3 (hiz), 37 SCL1/RG2 (hiz), 38 VDD (hiz), 39 OSCI/CLKI (hiz), 40 OSCO/CLKO (hiz), 41 VSS (hiz), 42 RTCC/RD8 (hiz), 43 RD9/RP4 (hiz), 44 PMCS2/RD10 (hiz), 45 PMCS1/RD11 (hiz), 46 RD0/RP11 (hiz), 47 SOSCI (hiz), 48 SOSCO (hiz), 49 RD1/RP24 (hiz), 50 RD2/RP23 (hiz), 51 PMBE/RD3 (hiz), 52 PMWR/RD4 (hiz), 53 PMRD/RD5 (hiz), 54 RD6 (hiz), 55 RD7/CN16 (hiz), 56 VCAP/VDDCORE (hiz), 57 ENVREG (hiz), 58 RF0/CN68 (hiz), 59 RF1/CN69 (hiz), 60 PMD0 (hiz), 61 PMD1 (hiz), 62 PMD2 (hiz), 63 PMD3 (hiz), 64 PMD4 (hiz)

## PLS-2
designator X?, comment Соединитель штыревой PLS-2  (value not drawn)
Value: Соединитель штыревой PLS-2
footprint PLS-2.54-2
pins: 1, 2

## PLS-2_1
designator X?, comment Соединитель штыревой PLS-2  (value not drawn)
Value: Соединитель штыревой PLS-2
footprint PLS-2.54-2
part A pins: 1
part B pins: 2

## PLS-3
designator X?, comment Соединитель штыревой PLS-3  (value not drawn)
Value: Соединитель штыревой PLS-3
footprint PLS-2.54-3
pins: 1, 2, 3

## PLS-4
designator X?, comment Соединитель штыревой PLS-4  (value not drawn)
Value: Соединитель штыревой PLS-4
footprint PLS-2.54-4
pins: 1, 2, 3, 4

## PLS-5
designator X?, comment Соединитель штыревой PLS-5  (value not drawn)
Value: Соединитель штыревой PLS-5
footprint PLS-2.54-5
pins: 1, 2, 3, 4, 5

## PLS-6
designator X?, comment Соединитель штыревой PLS-6  (value not drawn)
Value: Соединитель штыревой PLS-6
footprint PLS-2.54-6 (Footprint not found)
pins: 1, 2, 3, 4, 5, 6

## PLS-7
designator X?, comment Соединитель штыревой PLS-7  (value not drawn)
Value: Соединитель штыревой PLS-7
footprint PLS-2.54-7
pins: 1, 2, 3, 4, 5, 6, 7

## PLS-8
designator X?, comment Соедениель штыревой PLS-8  (value not drawn)
Value: Соедениель штыревой PLS-8
footprint PLS-2.54-8 (Footprint not found)
pins: 1, 2, 3, 4, 5, 6, 7, 8

## PLS-10
designator X?, comment Соединитель штыревой PLS-10  (value not drawn)
Value: Соединитель штыревой PLS-10
footprint PLS-2.54-10R (Footprint not found)
pins: 1, 2, 3, 4, 5, 6, 7, 8, 9, 10

## PLS-10 PAD
designator X?, comment Соединитель штыревой PLS-10  (value not drawn)
Value: Соединитель штыревой PLS-10
footprint PLS-2.54-10R (Footprint not found)
pins: 1, 2, 3, 4, 5, 6, 7, 8, 9, 10

## PLS-10A
designator X?, comment Соеденитель штыревой PLD-10  (value not drawn)
Value: Соеденитель штыревой PLD-10
footprint PLD-2.54-10
pins: 1, 2, 3, 4, 5, 6, 7, 8, 9, 10

## Point
designator ?  (value not drawn)
footprint PadRound (Pad Round)
pins: 1

## Point_1
designator ?  (value not drawn)
footprint PadRound (Pad Round)
pins: 1

## Quartz
designator ZQ?, comment Резонатор кварцевый GSX49-4/351DF 4 MHz  (value not drawn)
Value: Резонатор кварцевый GSX49-4/351DF 4 MHz
footprint GSX49-4 (SM Crystal)
pins: 1, 2

## REG1117
designator D?  (value not drawn)
Value: REG1117
footprint DDPAK
pins: 1 GND/Adj, 2 Vout, 3 Vin, 4 Vout

## Resistor
designator R?  (value not drawn)
Value: *
footprint 0402
footprint 0603
footprint 0805
footprint C2-23-0,25
footprint 1206
footprint 0402_min
pins: 1, 2

## RPOT
designator R?  (value not drawn)
footprint RPOT (Footprint not found)
pins: 1, 2, 3

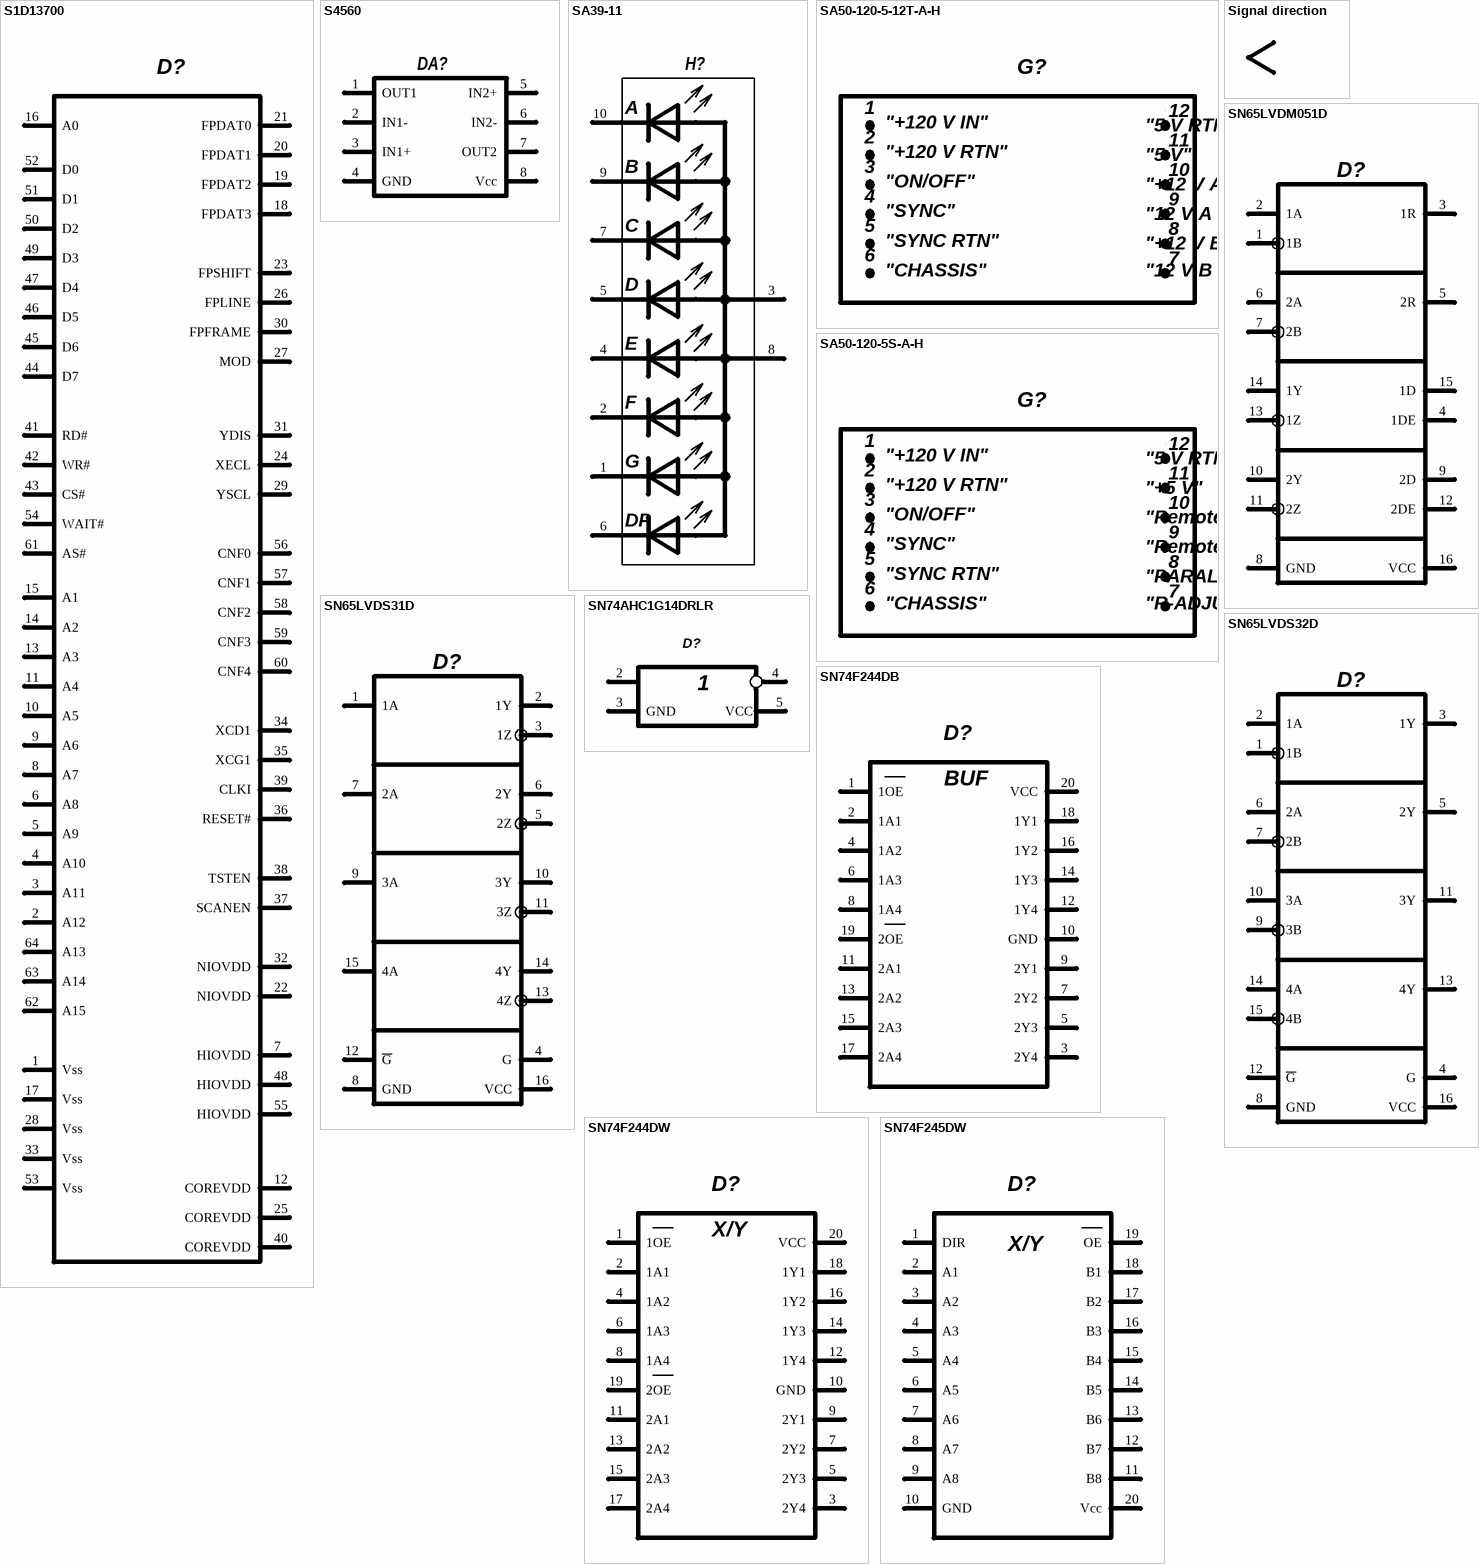
[diagram p10: symbols S1D13700 to SN74F245DW]

## S1D13700
designator D?  (value not drawn)
Value: S1D13700
footprint TQFP13-64 (Footprint not found)
pins: 1 Vss, 2 A12, 3 A11, 4 A10, 5 A9, 6 A8, 7 HIOVDD, 8 A7, 9 A6, 10 A5, 11 A4, 12 COREVDD, 13 A3, 14 A2, 15 A1, 16 A0, 17 Vss, 18 FPDAT3, 19 FPDAT2, 20 FPDAT1, 21 FPDAT0, 22 NIOVDD, 23 FPSHIFT, 24 XECL, 25 COREVDD, 26 FPLINE, 27 MOD, 28 Vss, 29 YSCL, 30 FPFRAME, 31 YDIS, 32 NIOVDD, 33 Vss, 34 XCD1, 35 XCG1, 36 RESET#, 37 SCANEN, 38 TSTEN, 39 CLKI, 40 COREVDD, 41 RD#, 42 WR#, 43 CS#, 44 D7, 45 D6, 46 D5, 47 D4, 48 HIOVDD, 49 D3, 50 D2, 51 D1, 52 D0, 53 Vss, 54 WAIT#, 55 HIOVDD, 56 CNF0, 57 CNF1, 58 CNF2, 59 CNF3, 60 CNF4, 61 AS#, 62 A15, 63 A14, 64 A13

## S4560
designator DA?  (value not drawn)
Value: S4560
footprint SO-8_N
pins: 1 OUT1, 2 IN1-, 3 IN1+, 4 GND, 5 IN2+, 6 IN2-, 7 OUT2, 8 Vcc

## SA39-11
designator H?  (value not drawn)
Value: SA39-11
footprint SA39-11 (Footprint not found)
pins: 1, 2, 3, 4, 5, 6, 7, 8, 9, 10
text: A; B; C; D; E; F; G; DP

## SA50-120-5-12T-A-H
designator G?  (value not drawn)  (graphical)
Производитель: Microsemi; Value: SA50-120-5-12T-A-H
pins: 1, 2, 3, 4, 5, 6, 7, 8, 9, 10, 11, 12
text: "+120 V IN"; "5 V RTN"; "+120 V RTN"; "5 V"; "ON/OFF"; "+12 V A"; "SYNC"; "12 V A RTN"; "SYNC RTN"; "+12 V B"; "CHASSIS"; "12 V B RTN"

## SA50-120-5S-A-H
designator G?  (value not drawn)  (graphical)
Производитель: Microsemi; Value: SA50-120-5S-A-H
pins: 1, 2, 3, 4, 5, 6, 7, 8, 9, 10, 11, 12
text: "+120 V IN"; "5 V RTN"; "+120 V RTN"; "+5 V"; "ON/OFF"; "Remote sense"; "SYNC"; "Remote sense RTN"; "SYNC RTN"; "PARALLEL"; "CHASSIS"; "R-ADJUST"

## Signal direction
designator *  (value not drawn)  (graphical)

## SN65LVDM051D
designator D?  (value not drawn)
Value: SN65LVDM051D
footprint SOIC-16 (Footprint not found)
pins: 1 1B, 2 1A, 3 1R, 4 1DE, 5 2R, 6 2A, 7 2B, 8 GND, 9 2D, 10 2Y, 11 2Z, 12 2DE, 13 1Z, 14 1Y, 15 1D, 16 VCC

## SN65LVDS31D
designator D?  (value not drawn)
Value: SN65LVDS31D
footprint D016_N (16-Pin Small Outline Integrated Circuit 1.27 mm Pitch, IPC Medium Density)
pins: 1 1A, 2 1Y, 3 1Z, 4 G, 5 2Z, 6 2Y, 7 2A, 8 GND, 9 3A, 10 3Y, 11 3Z, 12 ~{G}, 13 4Z, 14 4Y, 15 4A, 16 VCC

## SN65LVDS32D
designator D?  (value not drawn)
Value: SN65LVDS32D
footprint D016_N (16-Pin Small Outline Integrated Circuit 1.27 mm Pitch, IPC Medium Density)
pins: 1 1B, 2 1A, 3 1Y, 4 G, 5 2Y, 6 2A, 7 2B, 8 GND, 9 3B, 10 3A, 11 3Y, 12 ~{G}, 13 4Y, 14 4A, 15 4B, 16 VCC

## SN74AHC1G14DRLR
designator D?  (value not drawn)
Value: SN74AHC1G14DRLR
footprint SOT23-5AM (SOT23, 5-Leads, Body 2.9x1.7mm, Pitch 0.95mm, Lead Span 2.8mm, IPC Low Density)
pins: 2, 3 GND, 4, 5 VCC
text: 1

## SN74F244DB
designator D?, comment SN74F244DBR  (value not drawn)
Value: SN74F244DBR
footprint SSOP-20 (Footprint not found)
pins: 1 1OE, 2 1A1, 3 2Y4, 4 1A2, 5 2Y3, 6 1A3, 7 2Y2, 8 1A4, 9 2Y1, 10 GND, 11 2A1, 12 1Y4, 13 2A2, 14 1Y3, 15 2A3, 16 1Y2, 17 2A4, 18 1Y1, 19 2OE, 20 VCC
text: BUF

## SN74F244DW
designator D?  (value not drawn)
Value: SN74F244DW
footprint PW-24 (TSOP, 24-Leads, Body 7,9x4,5mm (max), Pitch 0,65mm, IPC Medium Density)
pins: 1 1OE, 2 1A1, 3 2Y4, 4 1A2, 5 2Y3, 6 1A3, 7 2Y2, 8 1A4, 9 2Y1, 10 GND, 11 2A1, 12 1Y4, 13 2A2, 14 1Y3, 15 2A3, 16 1Y2, 17 2A4, 18 1Y1, 19 2OE, 20 VCC
text: X/Y

## SN74F245DW
designator D?  (value not drawn)
Value: SN74F245DW
footprint PW-24 (TSOP, 24-Leads, Body 7,9x4,5mm (max), Pitch 0,65mm, IPC Medium Density)
pins: 1 DIR, 2 A1, 3 A2, 4 A3, 5 A4, 6 A5, 7 A6, 8 A7, 9 A8, 10 GND, 11 B8, 12 B7, 13 B6, 14 B5, 15 B4, 16 B3, 17 B2, 18 B1, 19 OE, 20 Vcc
text: X/Y

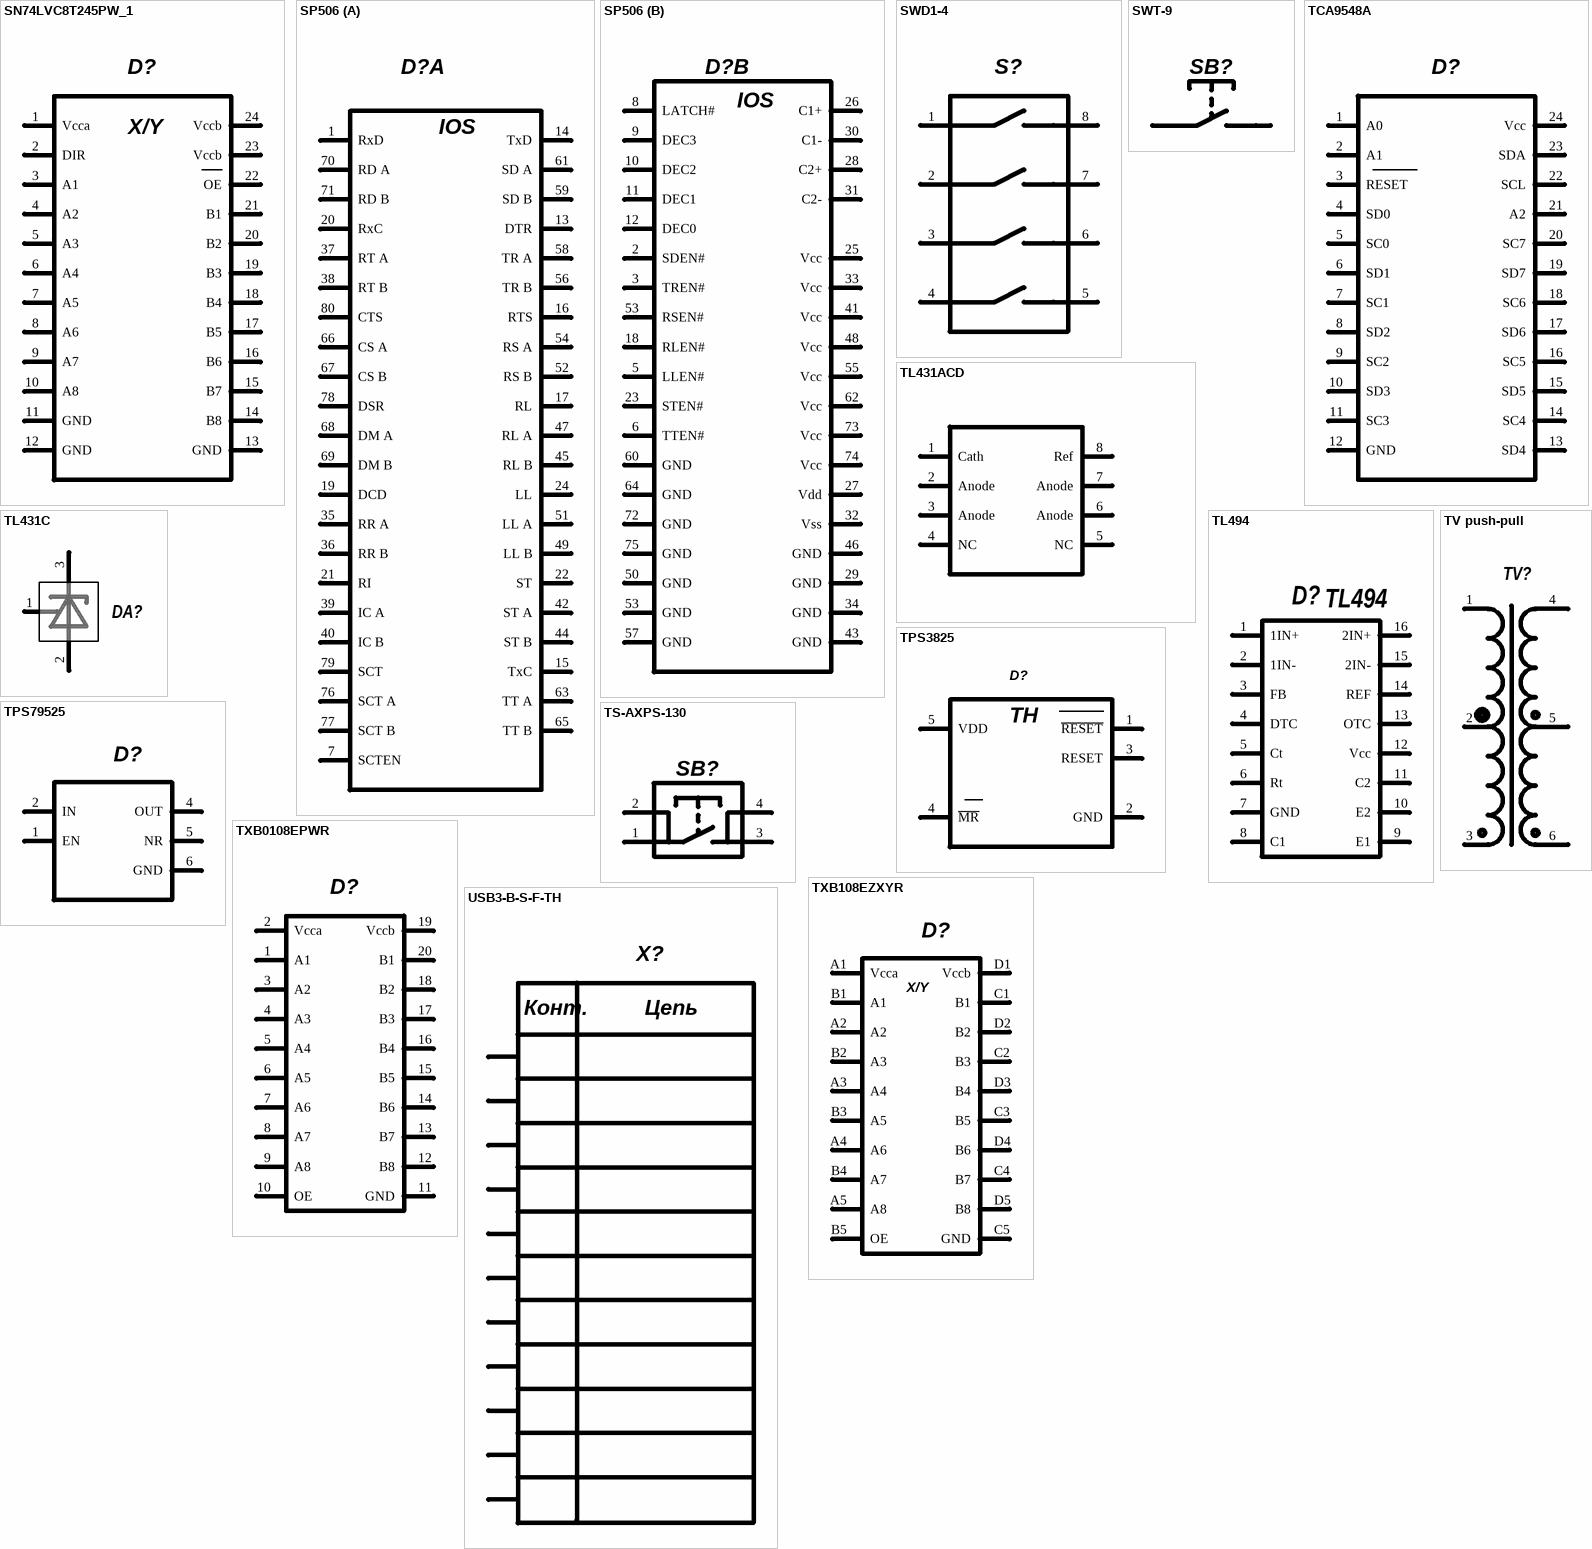
[diagram p11: symbols SN74LVC8T245PW_1 to USB3-B-S-F-TH]

## SN74LVC8T245PW_1
designator D?, comment SN74LVC8T245PW  (value not drawn)
Value: SN74LVC8T245PW
footprint PW-24 (TSOP, 24-Leads, Body 7,9x4,5mm (max), Pitch 0,65mm, IPC Medium Density)
pins: 1 Vcca, 2 DIR, 3 A1, 4 A2, 5 A3, 6 A4, 7 A5, 8 A6, 9 A7, 10 A8, 11 GND, 12 GND, 13 GND, 14 B8, 15 B7, 16 B6, 17 B5, 18 B4, 19 B3, 20 B2, 21 B1, 22 OE, 23 Vccb, 24 Vccb
text: X/Y

## SP506
designator D?  (value not drawn)
Value: SP506
part A pins: 1 RxD, 7 SCTEN, 13 DTR, 14 TxD, 15 TxC, 16 RTS, 17 RL, 19 DCD, 20 RxC, 21 RI, 22 ST, 24 LL, 35 RR A, 36 RR B, 37 RT A, 38 RT B, 39 IC A, 40 IC B, 42 ST A, 44 ST B, 45 RL B, 47 RL A, 49 LL B, 51 LL A, 52 RS B, 54 RS A, 56 TR B, 58 TR A, 59 SD B, 61 SD A, 63 TT A, 65 TT B, 66 CS A, 67 CS B, 68 DM A, 69 DM B, 70 RD A, 71 RD B, 76 SCT A, 77 SCT B, 78 DSR, 79 SCT, 80 CTS
part B pins: 2 SDEN#, 3 TREN#, 5 LLEN#, 6 TTEN#, 8 LATCH#, 9 DEC3, 10 DEC2, 11 DEC1, 12 DEC0, 18 RLEN#, 23 STEN#, 25 Vcc, 26 C1+, 27 Vdd, 28 C2+, 29 GND, 30 C1-, 31 C2-, 32 Vss, 33 Vcc, 34 GND, 41 Vcc, 43 GND, 46 GND, 48 Vcc, 50 GND, 53 GND, 53 RSEN#, 55 Vcc, 57 GND, 60 GND, 62 Vcc, 64 GND, 72 GND, 73 Vcc, 74 Vcc, 75 GND
part A text: IOS
part B text: IOS

## SWD1-4
designator S?, comment Выключатель SWD1-4  (value not drawn)
Value: Выключатель SWD1-4
footprint SWD1-4 (Footprint not found)
pins: 1, 2, 3, 4, 5, 6, 7, 8

## SWT-9
designator SB?, comment Кнопка тактовая SWT-9  (value not drawn)
Value: Кнопка тактовая SWT-9
footprint SWT-9
pins: 1, 2

## TCA9548A
designator D?  (value not drawn)
Value: TCA9548APW
footprint PW-24 (TSOP, 24-Leads, Body 7,9x4,5mm (max), Pitch 0,65mm, IPC Medium Density)
pins: 1 A0, 2 A1, 3 RESET, 4 SD0, 5 SC0, 6 SD1, 7 SC1, 8 SD2, 9 SC2, 10 SD3, 11 SC3, 12 GND, 13 SD4, 14 SC4, 15 SD5, 16 SC5, 17 SD6, 18 SC6, 19 SD7, 20 SC7, 21 A2, 22 SCL, 23 SDA, 24 Vcc

## TL431ACD
designator D?  (value not drawn)
Type: TL431ACD; Value: TL431ACD
footprint 751-05_N (8-Pin Small Outline Integrated Circuit 1.27 mm Pitch, IPC Medium Density)
pins: 1 Cath, 2 Anode, 3 Anode, 4 NC, 5 NC, 6 Anode, 7 Anode, 8 Ref

## TL431C
designator DA?  (value not drawn)
Value: TL431C
footprint TO-92 (Footprint not found)
pins: 1 Ref, 2 A, 3 K

## TL494
designator D?  value TL494  (hidden comment: *)
footprint SO-16 (Footprint not found)
pins: 1 1IN+, 2 1IN-, 3 FB, 4 DTC, 5 Ct, 6 Rt, 7 GND, 8 C1, 9 E1, 10 E2, 11 C2, 12 Vcc, 13 OTC, 14 REF, 15 2IN-, 16 2IN+

## TPS3825
designator D?  (value not drawn)
Value: TPS3825-33DBVT
footprint SOT23-5AM (SOT23, 5-Leads, Body 2.9x1.7mm, Pitch 0.95mm, Lead Span 2.8mm, IPC Low Density)
pins: 1 ~{RESET}, 2 GND (power), 3 RESET, 4 ~{MR}, 5 VDD (power)
text: TH

## TPS79525
designator D?  (value not drawn)
footprint SOT223_6
pins: 1 EN, 2 IN, 3 GND hidden to GNDA, 4 OUT, 5 NR, 6 GND

## TS-AXPS-130
designator SB?, comment Кнопка тактовая TS-A3PS-130  (value not drawn)
Value: Кнопка тактовая TS-A3PS-130
footprint TS-AXPS-130
pins: 1, 2, 3, 4

## TV push-pull
designator TV?  (value not drawn)
Value: Trans Push-Pull
pins: 1, 2, 3, 4, 5, 6

## TXB0108EPWR
designator D?  (value not drawn)
footprint PW020 (Shrink Small Outline; 20 Leads; Body Width 4.4 mm; Pitch 0.65 mm)
pins: 1 A1, 2 Vcca, 3 A2, 4 A3, 5 A4, 6 A5, 7 A6, 8 A7, 9 A8, 10 OE, 11 GND, 12 B8, 13 B7, 14 B6, 15 B5, 16 B4, 17 B3, 18 B2, 19 Vccb, 20 B1

## TXB108EZXYR
designator D?, comment TXS108EZXYR  (value not drawn)
Value: TXS108EZXYR
pins: A1 Vcca, A2, A3 A4, A4 A6, A5 A8, B1 A1, B2 A3, B3 A5, B4 A7, B5 OE, C1 B1, C2 B3, C3 B5, C4 B7, C5 GND, D1 Vccb, D2 B2, D3 B4, D4 B6, D5 B8
text: X/Y

## USB3-B-S-F-TH
designator X?  (value not drawn)
Value: Розетка USB3-B-S-F-TH
footprint USB3-B (Footprint not found)
pins: 1, 2, 3, 4, 5, 6, 7, 8, 9, 10, 11
text: Конт.; Цепь

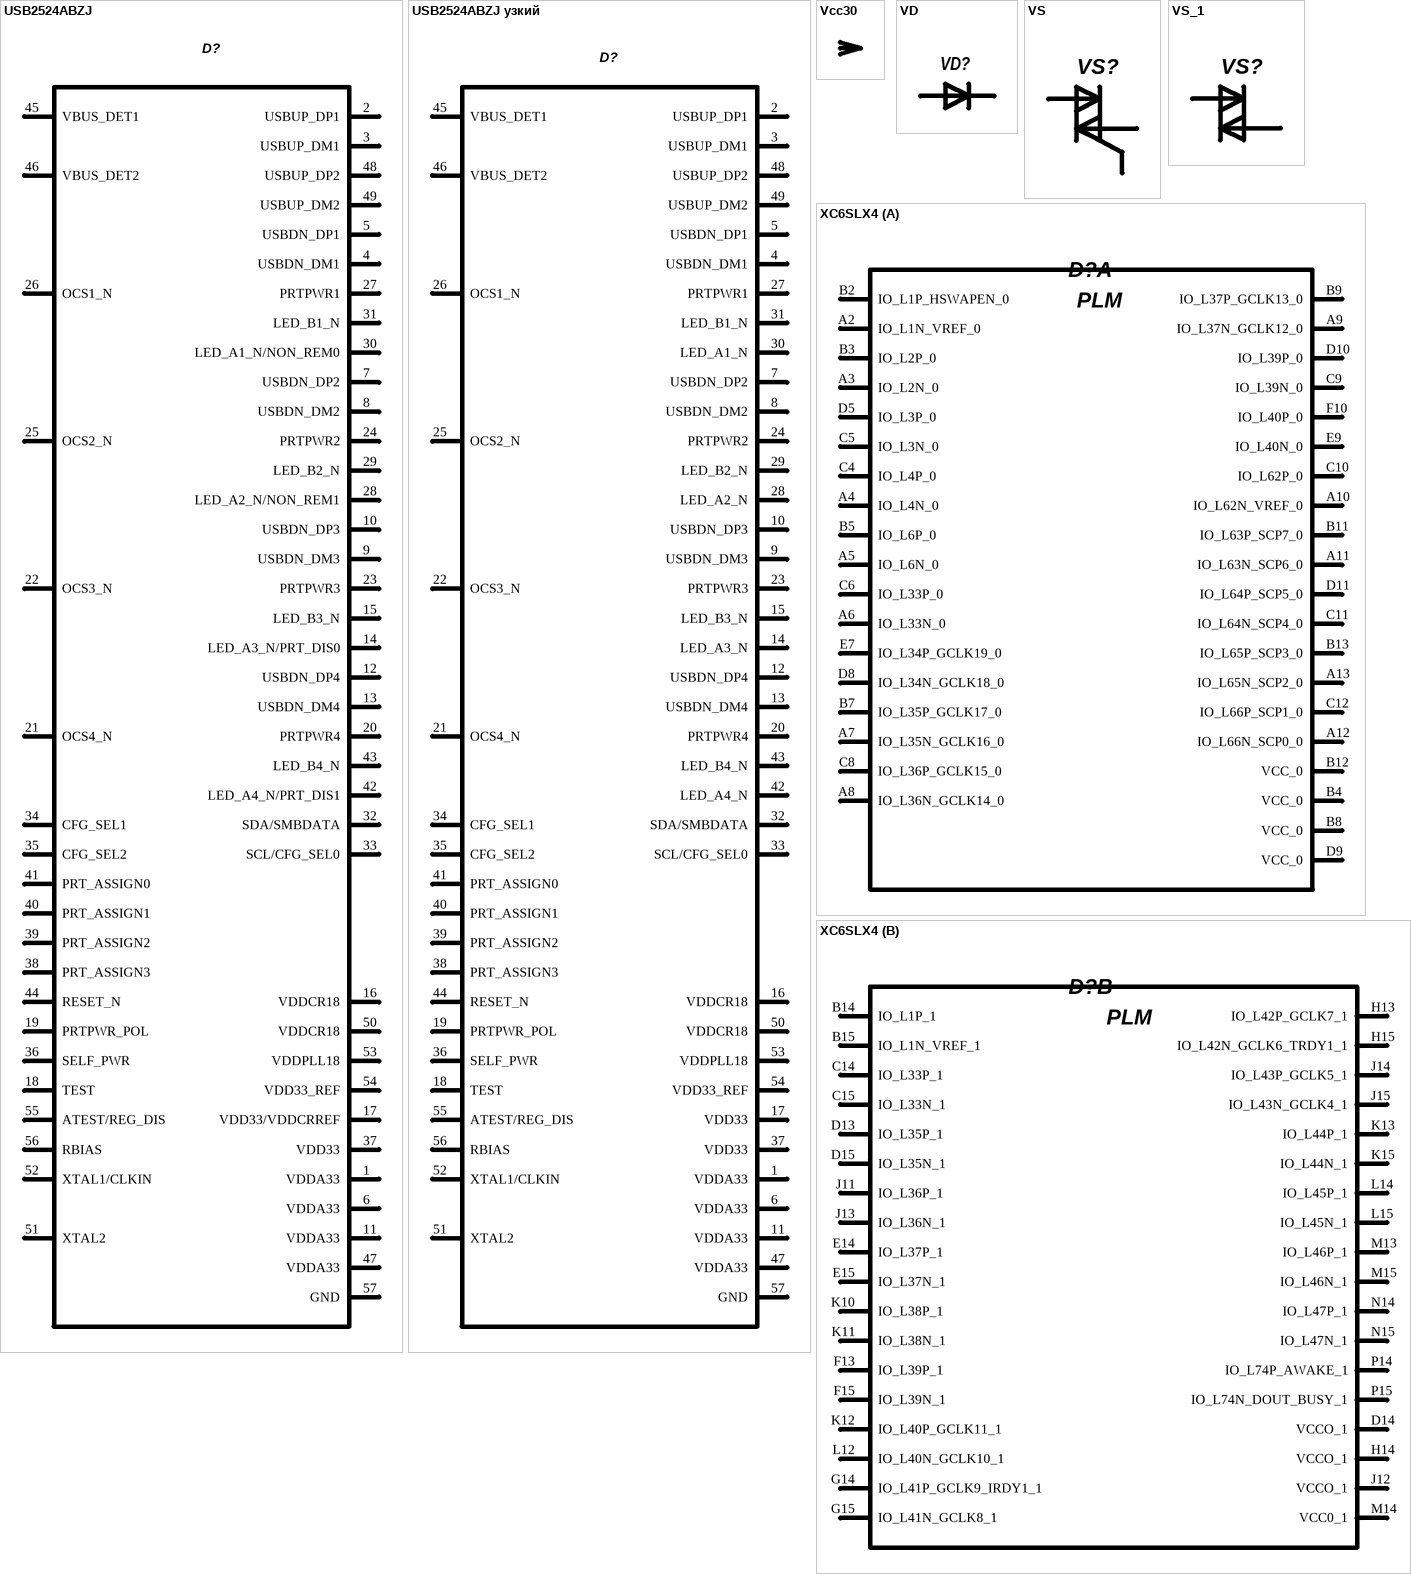
[diagram p12: symbols USB2524ABZJ to XC6SLX4]

## USB2524ABZJ
designator D?  (value not drawn)
Value: USB2524ABZJ
footprint QFN50P800X800X100-56N (QFN, 56-Leads, Body 8,1x8,1mm (max), Pitch 0,50mm, IPC Medium Density)
pins: 1 VDDA33, 2 USBUP_DP1, 3 USBUP_DM1, 4 USBDN_DM1, 5 USBDN_DP1, 6 VDDA33, 7 USBDN_DP2, 8 USBDN_DM2, 9 USBDN_DM3, 10 USBDN_DP3, 11 VDDA33, 12 USBDN_DP4, 13 USBDN_DM4, 14 LED_A3_N/PRT_DIS0, 15 LED_B3_N, 16 VDDCR18, 17 VDD33/VDDCRREF, 18 TEST, 19 PRTPWR_POL, 20 PRTPWR4, 21 OCS4_N, 22 OCS3_N, 23 PRTPWR3, 24 PRTPWR2, 25 OCS2_N, 26 OCS1_N, 27 PRTPWR1, 28 LED_A2_N/NON_REM1, 29 LED_B2_N, 30 LED_A1_N/NON_REM0, 31 LED_B1_N, 32 SDA/SMBDATA, 33 SCL/CFG_SEL0, 34 CFG_SEL1, 35 CFG_SEL2, 36 SELF_PWR, 37 VDD33, 38 PRT_ASSIGN3, 39 PRT_ASSIGN2, 40 PRT_ASSIGN1, 41 PRT_ASSIGN0, 42 LED_A4_N/PRT_DIS1, 43 LED_B4_N, 44 RESET_N, 45 VBUS_DET1, 46 VBUS_DET2, 47 VDDA33, 48 USBUP_DP2, 49 USBUP_DM2, 50 VDDCR18, 51 XTAL2, 52 XTAL1/CLKIN, 53 VDDPLL18, 54 VDD33_REF, 55 ATEST/REG_DIS, 56 RBIAS, 57 GND

## USB2524ABZJ узкий
designator D?, comment USB2524ABZJ  (value not drawn)
Value: USB2524ABZJ
footprint QFN50P800X800X100-56N (QFN, 56-Leads, Body 8,1x8,1mm (max), Pitch 0,50mm, IPC Medium Density)
pins: 1 VDDA33, 2 USBUP_DP1, 3 USBUP_DM1, 4 USBDN_DM1, 5 USBDN_DP1, 6 VDDA33, 7 USBDN_DP2, 8 USBDN_DM2, 9 USBDN_DM3, 10 USBDN_DP3, 11 VDDA33, 12 USBDN_DP4, 13 USBDN_DM4, 14 LED_A3_N, 15 LED_B3_N, 16 VDDCR18, 17 VDD33, 18 TEST, 19 PRTPWR_POL, 20 PRTPWR4, 21 OCS4_N, 22 OCS3_N, 23 PRTPWR3, 24 PRTPWR2, 25 OCS2_N, 26 OCS1_N, 27 PRTPWR1, 28 LED_A2_N, 29 LED_B2_N, 30 LED_A1_N, 31 LED_B1_N, 32 SDA/SMBDATA, 33 SCL/CFG_SEL0, 34 CFG_SEL1, 35 CFG_SEL2, 36 SELF_PWR, 37 VDD33, 38 PRT_ASSIGN3, 39 PRT_ASSIGN2, 40 PRT_ASSIGN1, 41 PRT_ASSIGN0, 42 LED_A4_N, 43 LED_B4_N, 44 RESET_N, 45 VBUS_DET1, 46 VBUS_DET2, 47 VDDA33, 48 USBUP_DP2, 49 USBUP_DM2, 50 VDDCR18, 51 XTAL2, 52 XTAL1/CLKIN, 53 VDDPLL18, 54 VDD33_REF, 55 ATEST/REG_DIS, 56 RBIAS, 57 GND

## Vcc30
designator *  (value not drawn)  (graphical)

## VD
designator VD?  (value not drawn)
Value: Диод LL4448
footprint SOD80C
pins: A, K

## VS
designator VS?  (value not drawn)
Value: Симистор
footprint TO-220 (Footprint not found)
pins: 1 A1, 3 G, A2 2

## VS_1
designator VS?  (value not drawn)
Value: Симистор
footprint TO-220 (Footprint not found)
pins: 1 A1, A2 2

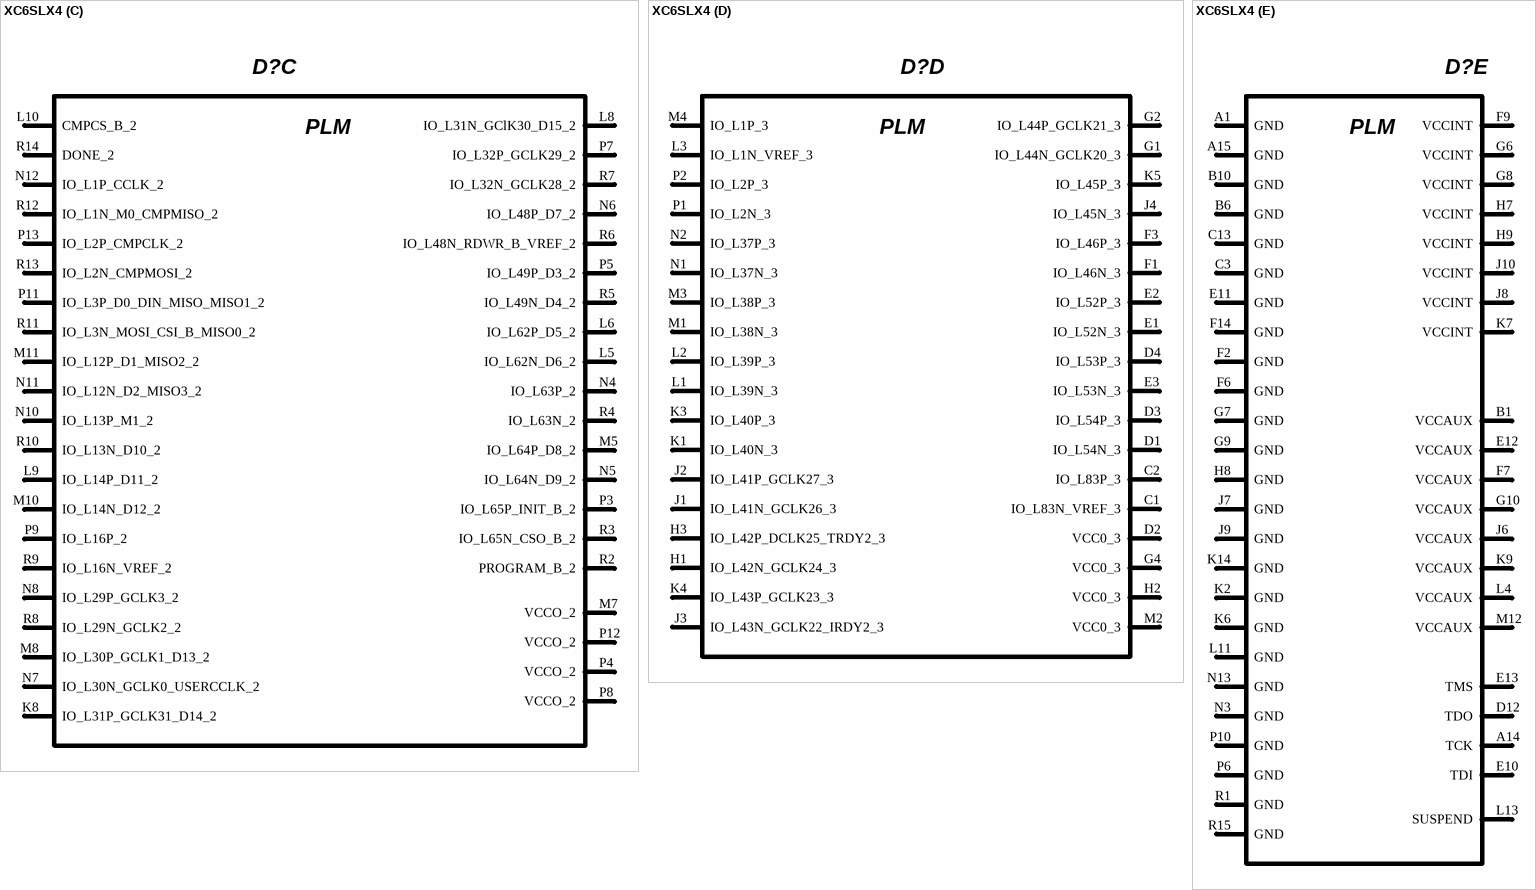
[diagram p13: symbol XC6SLX4]

## XC6SLX4
designator D?  (value not drawn)
Value: XC6SLX4-3CSG225
footprint CSG225 (Footprint not found)
part A pins: A2 IO_L1N_VREF_0, A3 IO_L2N_0, A4 IO_L4N_0, A5 IO_L6N_0, A6 IO_L33N_0, A7 IO_L35N_GCLK16_0, A8 IO_L36N_GCLK14_0, A9 IO_L37N_GCLK12_0, A10 IO_L62N_VREF_0, A11 IO_L63N_SCP6_0, A12 IO_L66N_SCP0_0, A13 IO_L65N_SCP2_0, B2 IO_L1P_HSWAPEN_0, B3 IO_L2P_0, B4 VCC_0, B5 IO_L6P_0, B7 IO_L35P_GCLK17_0, B8 VCC_0, B9 IO_L37P_GCLK13_0, B11 IO_L63P_SCP7_0, B12 VCC_0, B13 IO_L65P_SCP3_0, C4 IO_L4P_0, C5 IO_L3N_0, C6 IO_L33P_0, C8 IO_L36P_GCLK15_0, C9 IO_L39N_0, C10 IO_L62P_0, C11 IO_L64N_SCP4_0, C12 IO_L66P_SCP1_0, D5 IO_L3P_0, D8 IO_L34N_GCLK18_0, D9 VCC_0, D10 IO_L39P_0, D11 IO_L64P_SCP5_0, E7 IO_L34P_GCLK19_0, E9 IO_L40N_0, F10 IO_L40P_0
part B pins: B14 IO_L1P_1, B15 IO_L1N_VREF_1, C14 IO_L33P_1, C15 IO_L33N_1, D13 IO_L35P_1, D14 VCCO_1, D15 IO_L35N_1, E14 IO_L37P_1, E15 IO_L37N_1, F13 IO_L39P_1, F15 IO_L39N_1, G14 IO_L41P_GCLK9_IRDY1_1, G15 IO_L41N_GCLK8_1, H13 IO_L42P_GCLK7_1, H14 VCCO_1, H15 IO_L42N_GCLK6_TRDY1_1, J11 IO_L36P_1, J12 VCCO_1, J13 IO_L36N_1, J14 IO_L43P_GCLK5_1, J15 IO_L43N_GCLK4_1, K10 IO_L38P_1, K11 IO_L38N_1, K12 IO_L40P_GCLK11_1, K13 IO_L44P_1, K15 IO_L44N_1, L12 IO_L40N_GCLK10_1, L14 IO_L45P_1, L15 IO_L45N_1, M13 IO_L46P_1, M14 VCC0_1, M15 IO_L46N_1, N14 IO_L47P_1, N15 IO_L47N_1, P14 IO_L74P_AWAKE_1, P15 IO_L74N_DOUT_BUSY_1
part C pins: K8 IO_L31P_GCLK31_D14_2, L5 IO_L62N_D6_2, L6 IO_L62P_D5_2, L8 IO_L31N_GClK30_D15_2, L9 IO_L14P_D11_2, L10 CMPCS_B_2, M5 IO_L64P_D8_2, M7 VCCO_2, M8 IO_L30P_GCLK1_D13_2, M10 IO_L14N_D12_2, M11 IO_L12P_D1_MISO2_2, N4 IO_L63P_2, N5 IO_L64N_D9_2, N6 IO_L48P_D7_2, N7 IO_L30N_GCLK0_USERCCLK_2, N8 IO_L29P_GCLK3_2, N10 IO_L13P_M1_2, N11 IO_L12N_D2_MISO3_2, N12 IO_L1P_CCLK_2, P3 IO_L65P_INIT_B_2, P4 VCCO_2, P5 IO_L49P_D3_2, P7 IO_L32P_GCLK29_2, P8 VCCO_2, P9 IO_L16P_2, P11 IO_L3P_D0_DIN_MISO_MISO1_2, P12 VCCO_2, P13 IO_L2P_CMPCLK_2, R2 PROGRAM_B_2, R3 IO_L65N_CSO_B_2, R4 IO_L63N_2, R5 IO_L49N_D4_2, R6 IO_L48N_RDWR_B_VREF_2, R7 IO_L32N_GCLK28_2, R8 IO_L29N_GCLK2_2, R9 IO_L16N_VREF_2, R10 IO_L13N_D10_2, R11 IO_L3N_MOSI_CSI_B_MISO0_2, R12 IO_L1N_M0_CMPMISO_2, R13 IO_L2N_CMPMOSI_2, R14 DONE_2
part D pins: C1 IO_L83N_VREF_3, C2 IO_L83P_3, D1 IO_L54N_3, D2 VCC0_3, D3 IO_L54P_3, D4 IO_L53P_3, E1 IO_L52N_3, E2 IO_L52P_3, E3 IO_L53N_3, F1 IO_L46N_3, F3 IO_L46P_3, G1 IO_L44N_GCLK20_3, G2 IO_L44P_GCLK21_3, G4 VCC0_3, H1 IO_L42N_GCLK24_3, H2 VCC0_3, H3 IO_L42P_DCLK25_TRDY2_3, J1 IO_L41N_GCLK26_3, J2 IO_L41P_GCLK27_3, J3 IO_L43N_GCLK22_IRDY2_3, J4 IO_L45N_3, K1 IO_L40N_3, K3 IO_L40P_3, K4 IO_L43P_GCLK23_3, K5 IO_L45P_3, L1 IO_L39N_3, L2 IO_L39P_3, L3 IO_L1N_VREF_3, M1 IO_L38N_3, M2 VCC0_3, M3 IO_L38P_3, M4 IO_L1P_3, N1 IO_L37N_3, N2 IO_L37P_3, P1 IO_L2N_3, P2 IO_L2P_3
part E pins: A1 GND, A14 TCK, A15 GND, B1 VCCAUX, B6 GND, B10 GND, C3 GND, C13 GND, D12 TDO, E10 TDI, E11 GND, E12 VCCAUX, E13 TMS, F2 GND, F6 GND, F7 VCCAUX, F9 VCCINT, F14 GND, G6 VCCINT, G7 GND, G8 VCCINT, G9 GND, G10 VCCAUX, H7 VCCINT, H8 GND, H9 VCCINT, J6 VCCAUX, J7 GND, J8 VCCINT, J9 GND, J10 VCCINT, K2 GND, K6 GND, K7 VCCINT, K9 VCCAUX, K14 GND, L4 VCCAUX, L11 GND, L13 SUSPEND, M12 VCCAUX, N3 GND, N13 GND, P6 GND, P10 GND, R1 GND, R15 GND
part A text: PLM
part B text: PLM
part C text: PLM
part D text: PLM
part E text: PLM

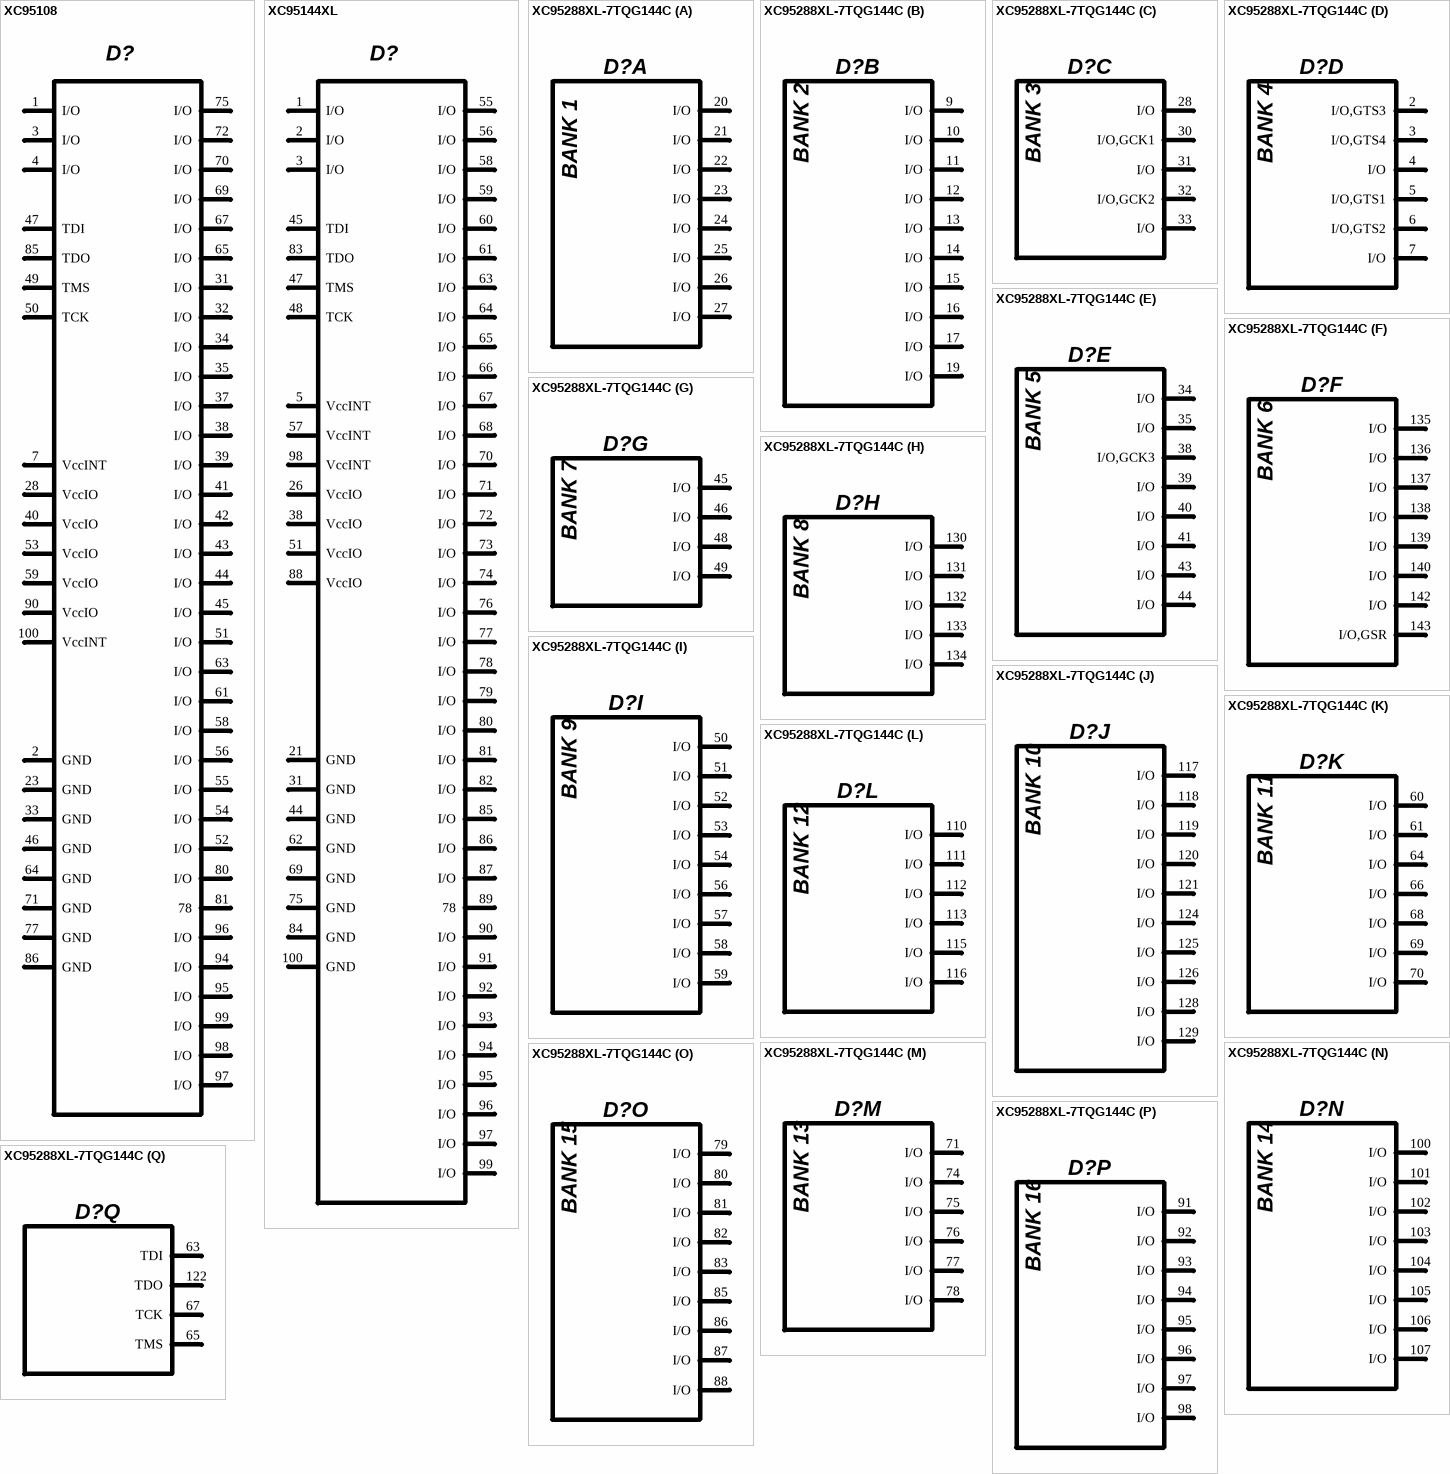
[diagram p14: symbols XC95108 to XC95288XL-7TQG144C]

## XC95108
designator D?  (value not drawn)
Value: XC95108
pins: 1 I/O, 2 GND, 3 I/O, 4 I/O, 7 VccINT, 23 GND, 28 VccIO, 31 I/O, 32 I/O, 33 GND, 34 I/O, 35 I/O, 37 I/O, 38 I/O, 39 I/O, 40 VccIO, 41 I/O, 42 I/O, 43 I/O, 44 I/O, 45 I/O, 46 GND, 47 TDI, 49 TMS, 50 TCK, 51 I/O, 52 I/O, 53 VccIO, 54 I/O, 55 I/O, 56 I/O, 58 I/O, 59 VccIO, 61 I/O, 63 I/O, 64 GND, 65 I/O, 67 I/O, 69 I/O, 70 I/O, 71 GND, 72 I/O, 75 I/O, 77 GND, 80 I/O, 81 78, 85 TDO, 86 GND, 90 VccIO, 94 I/O, 95 I/O, 96 I/O, 97 I/O, 98 I/O, 99 I/O, 100 VccINT

## XC95144XL
designator D?, comment XC95144  (value not drawn)
Value: XC95144
pins: 1 I/O, 2 I/O, 3 I/O, 5 VccINT, 21 GND, 26 VccIO, 31 GND, 38 VccIO, 44 GND, 45 TDI, 47 TMS, 48 TCK, 51 VccIO, 55 I/O, 56 I/O, 57 VccINT, 58 I/O, 59 I/O, 60 I/O, 61 I/O, 62 GND, 63 I/O, 64 I/O, 65 I/O, 66 I/O, 67 I/O, 68 I/O, 69 GND, 70 I/O, 71 I/O, 72 I/O, 73 I/O, 74 I/O, 75 GND, 76 I/O, 77 I/O, 78 I/O, 79 I/O, 80 I/O, 81 I/O, 82 I/O, 83 TDO, 84 GND, 85 I/O, 86 I/O, 87 I/O, 88 VccIO, 89 78, 90 I/O, 91 I/O, 92 I/O, 93 I/O, 94 I/O, 95 I/O, 96 I/O, 97 I/O, 98 VccINT, 99 I/O, 100 GND

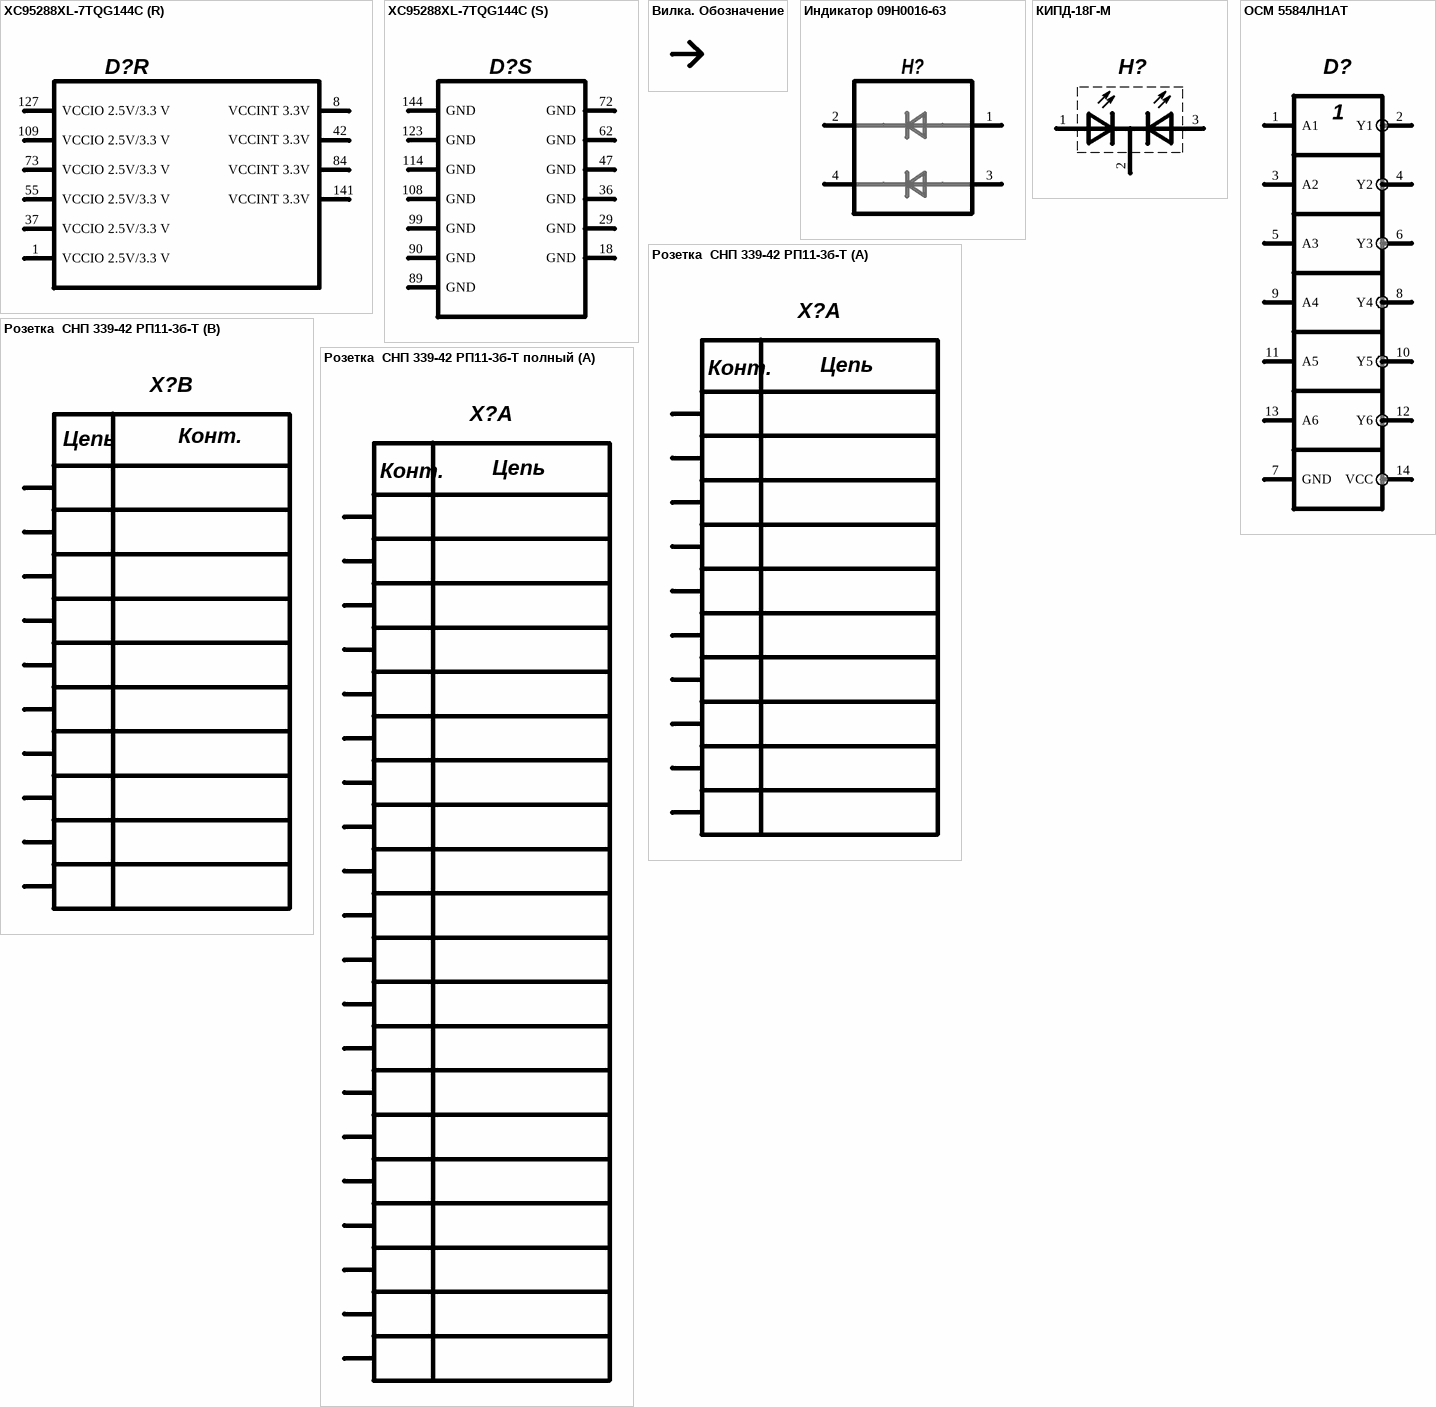
[diagram p15: symbols XC95288XL-7TQG144C to Розетка  СНП 339-42 РП11-3б-Т полный]

## XC95288XL-7TQG144C
designator D?  (value not drawn)
FastFLASH XC900XL, 3.3V High-Performance 288 Macrocell CPLD, 117 User I/Os, 144-Pin TQFP, Speed Grade 7, Commercial Grade, Pb-Free; DatasheetVersion: ver2.1, Apr-2007; PackageVersion: ver1.2, Jun-2004; PackageReference: TQG144; PackageDescription: 144-Pin Thin Quad Flat Pack (TQG144) - Pb-Free; Code_JEDEC: MS-026-BFB; ComponentLink1Description: Manufacturer URL; ComponentLink1URL: http://www.xilinx.com/; ComponentLink2Description: XC95288XL Datasheet; ComponentLink2URL: http://www.xilinx.com/support/documentation/data_sheets/ds055.pdf; ComponentLink3Description: TQG144 Package Drawing; ComponentLink3URL: http://www.xilinx.com/support/documentation/package_specs/tq144.pdf; ComponentLink4Description: XC9500XL Documents; ComponentLink4URL: http://www.xilinx.com/support/documentation/xc9500xl.htm; Value: XC95288XL-7TQG144C
footprint TQG144_N (Thin QFP, 144-Leads, Body 20x20mm, Pitch 0.5mm, IPC Medium Density)
footprint TQG144_L (Thin QFP, 144-Leads, Body 20x20mm, Pitch 0.5mm, IPC High Density)
footprint TQG144_M (Thin QFP, 144-Leads, Body 20x20mm, Pitch 0.5mm, IPC Low Density)
part A pins: 20 I/O, 21 I/O, 22 I/O, 23 I/O, 24 I/O, 25 I/O, 26 I/O, 27 I/O
part B pins: 9 I/O, 10 I/O, 11 I/O, 12 I/O, 13 I/O, 14 I/O, 15 I/O, 16 I/O, 17 I/O, 19 I/O
part C pins: 28 I/O, 30 I/O,GCK1, 31 I/O, 32 I/O,GCK2, 33 I/O
part D pins: 2 I/O,GTS3, 3 I/O,GTS4, 4 I/O, 5 I/O,GTS1, 6 I/O,GTS2, 7 I/O
part E pins: 34 I/O, 35 I/O, 38 I/O,GCK3, 39 I/O, 40 I/O, 41 I/O, 43 I/O, 44 I/O
part F pins: 135 I/O, 136 I/O, 137 I/O, 138 I/O, 139 I/O, 140 I/O, 142 I/O, 143 I/O,GSR
part G pins: 45 I/O, 46 I/O, 48 I/O, 49 I/O
part H pins: 130 I/O, 131 I/O, 132 I/O, 133 I/O, 134 I/O
part I pins: 50 I/O, 51 I/O, 52 I/O, 53 I/O, 54 I/O, 56 I/O, 57 I/O, 58 I/O, 59 I/O
part J pins: 117 I/O, 118 I/O, 119 I/O, 120 I/O, 121 I/O, 124 I/O, 125 I/O, 126 I/O, 128 I/O, 129 I/O
part K pins: 60 I/O, 61 I/O, 64 I/O, 66 I/O, 68 I/O, 69 I/O, 70 I/O
part L pins: 110 I/O, 111 I/O, 112 I/O, 113 I/O, 115 I/O, 116 I/O
part M pins: 71 I/O, 74 I/O, 75 I/O, 76 I/O, 77 I/O, 78 I/O
part N pins: 100 I/O, 101 I/O, 102 I/O, 103 I/O, 104 I/O, 105 I/O, 106 I/O, 107 I/O
part O pins: 79 I/O, 80 I/O, 81 I/O, 82 I/O, 83 I/O, 85 I/O, 86 I/O, 87 I/O, 88 I/O
part P pins: 91 I/O, 92 I/O, 93 I/O, 94 I/O, 95 I/O, 96 I/O, 97 I/O, 98 I/O
part Q pins: 63 TDI, 65 TMS, 67 TCK, 122 TDO
part R pins: 1 VCCIO 2.5V/3.3 V (power), 8 VCCINT 3.3V (power), 37 VCCIO 2.5V/3.3 V (power), 42 VCCINT 3.3V (power), 55 VCCIO 2.5V/3.3 V (power), 73 VCCIO 2.5V/3.3 V (power), 84 VCCINT 3.3V (power), 109 VCCIO 2.5V/3.3 V (power), 127 VCCIO 2.5V/3.3 V (power), 141 VCCINT 3.3V (power)
part S pins: 18 GND (power), 29 GND (power), 36 GND (power), 47 GND (power), 62 GND (power), 72 GND (power), 89 GND (power), 90 GND (power), 99 GND (power), 108 GND (power), 114 GND (power), 123 GND (power), 144 GND (power)
part A text: BANK 1
part B text: BANK 2
part C text: BANK 3
part D text: BANK 4
part E text: BANK 5
part F text: BANK 6
part G text: BANK 7
part H text: BANK 8
part I text: BANK 9
part J text: BANK 10
part K text: BANK 11
part L text: BANK 12
part M text: BANK 13
part N text: BANK 14
part O text: BANK 15
part P text: BANK 16

## Вилка. Обозначение
designator X?, comment Обозначение вилки  (value not drawn)  (graphical)
Value: Обозначение вилки

## Индикатор 09H0016-63
designator H?  (value not drawn)
Value: Индикатор 09H0016-63
footprint 09H00xx-xx (ELMA double Height LED-Arrays)
pins: 1 AGren, 2 CGreen, 3, 4

## КИПД-18Г-М
designator H?  (value not drawn)
pins: 1, 2, 3

## ОСМ 5584ЛН1АТ
designator D?, comment ОСМ 5584ЛН1АТ АЕЯР.431200.209-07ТУ  (value not drawn)
Value: ОСМ 5584ЛН1АТ АЕЯР.431200.209-07ТУ
pins: 1 A1, 2 Y1, 3 A2, 4 Y2, 5 A3, 6 Y3, 7 GND, 8 Y4, 9 A4, 10 Y5, 11 A5, 12 Y6, 13 A6, 14 VCC

## Розетка  СНП 339-42 РП11-3б-Т
designator X?  (value not drawn)
Value: Розетка  СНП 339-42 РП11-3б-Т
part A pins: 1, 2, 3, 4, 5, 6, 7, 8, 9, 10
part B pins: 1, 2, 3, 4, 5, 6, 7, 8, 9, 10
part A text: Цепь; Конт.
part B text: Цепь; Конт.

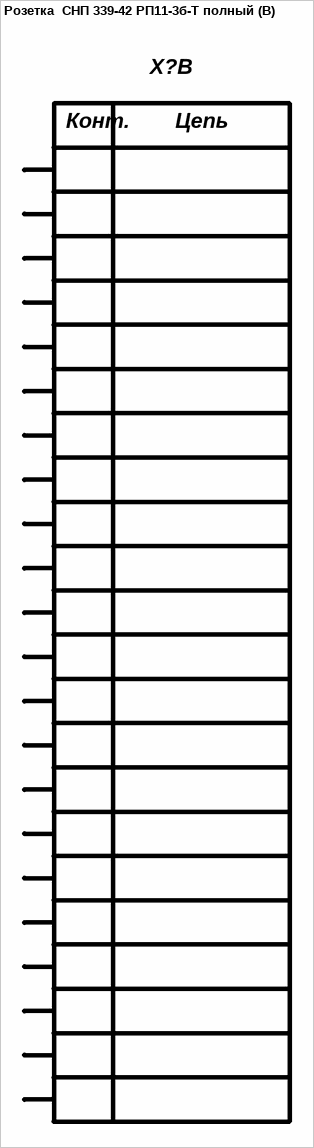
[diagram p16: symbol Розетка  СНП 339-42 РП11-3б-Т полный]

## Розетка  СНП 339-42 РП11-3б-Т полный
designator X?, comment Розетка  СНП 339-42 РП11-3б-Т  (value not drawn)
Value: Розетка  СНП 339-42 РП11-3б-Т
part A pins: 1, 2, 3, 4, 5, 6, 7, 8, 9, 10, 11, 12, 13, 14, 15, 16, 17, 18, 19, 20
part B pins: 21, 22, 23, 24, 25, 26, 27, 28, 29, 30, 31, 32, 33, 34, 35, 36, 37, 38, 39, 40, 41, 42
part A text: Цепь; Конт.
part B text: Конт.; Цепь